# Altium integrated library Xilinx XC9500.IntLib: 208 symbols (part 1 of 16)
Pins are listed as number, name and electrical type; pins without a type are passive.

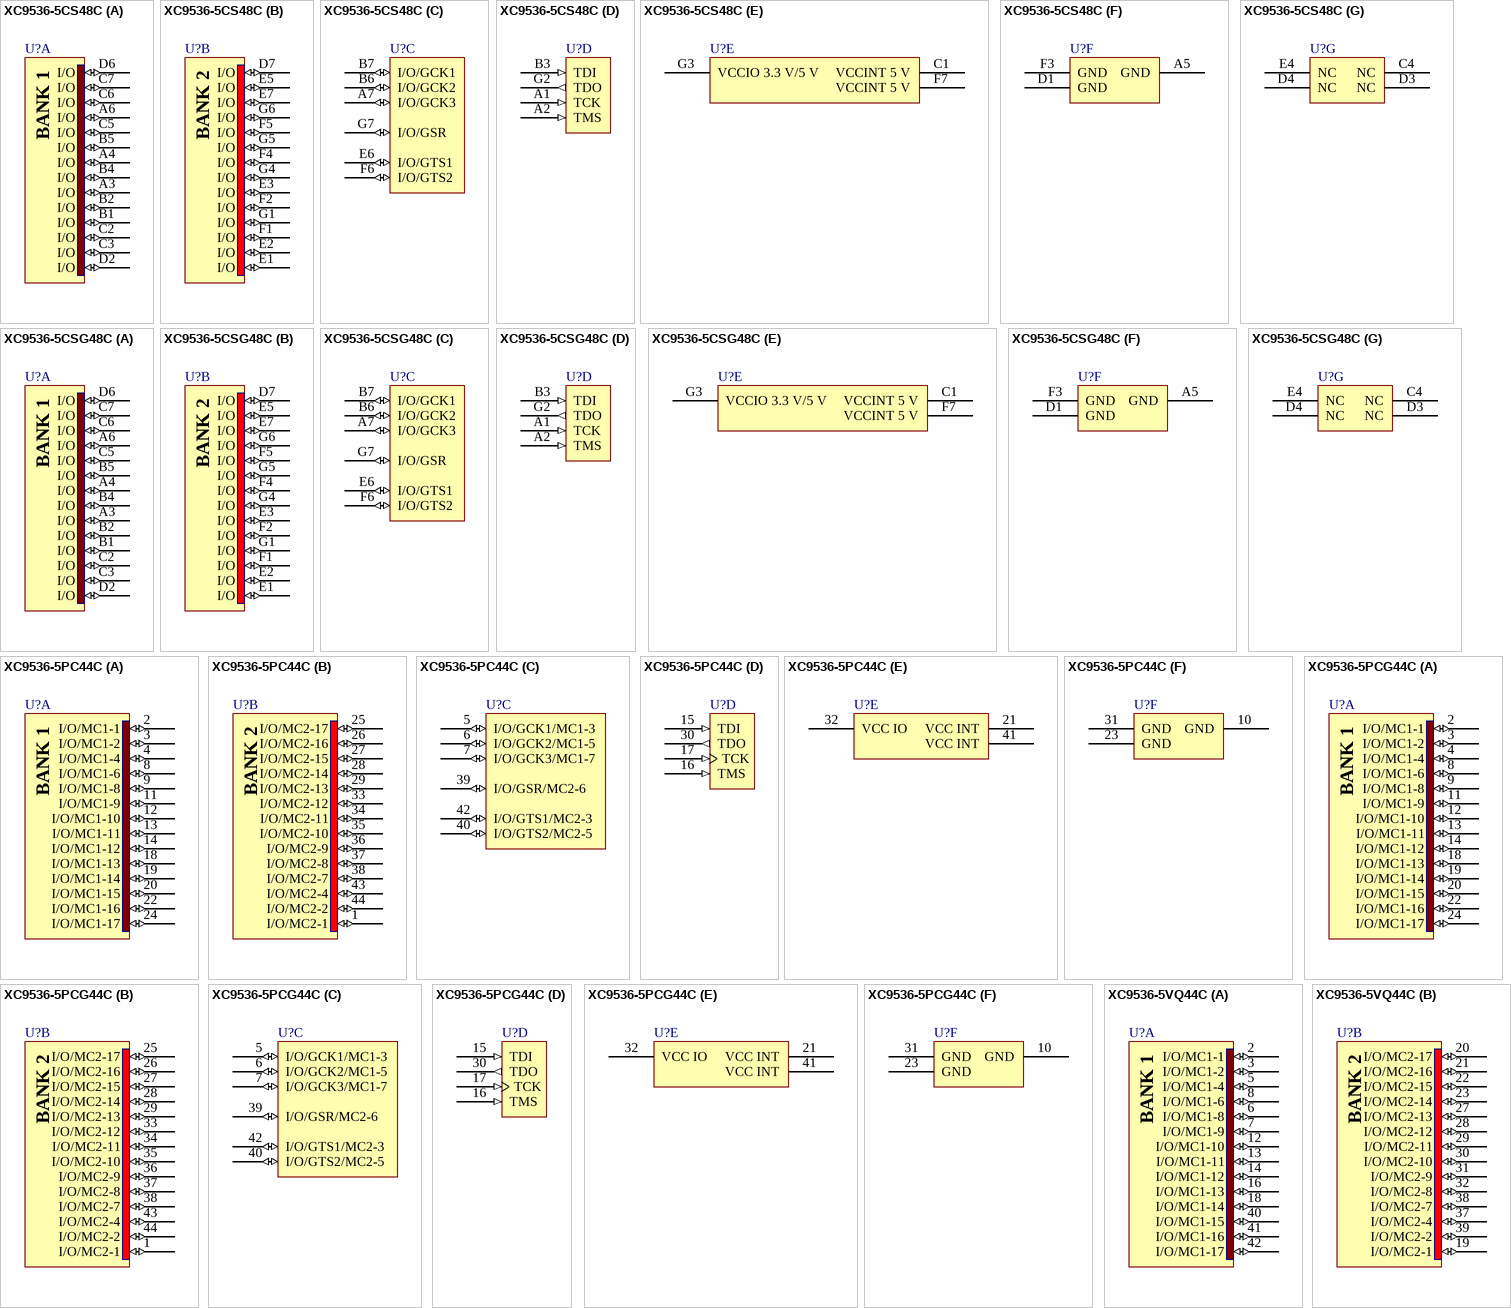
[diagram p0: symbols XC9536-5CS48C to XC9536-5VQ44C]

## XC9536-5CS48C
designator U?
XC9500 5V, 36 Macrocell CPLD, 34 User I/Os, 48-Ball CSBGA, Commercial Grade; Published: 17-Sep-2003; LatestRevisionDate: 18-Nov-2009; LatestRevisionNote: Updated to family datasheet version 5.5 Jun-2007.; DatasheetVersion: ver6.3, Apr-2006; PackageVersion: ver1.2.1, Apr-2005; PackageReference: CS48; Publisher: Altium Limited; PackageDescription: 48-Ball Chip Scale Ball Grid Array (CS48); Supplier 1: Digi-Key; Supplier Part Number 1: XC9536-5CS48C-ND; ComponentLink1Description: XC9536 Datasheet; ComponentLink1URL: http://www.xilinx.com/support/documentation/data_sheets/ds064.pdf; ComponentLink2Description: CS48 Package Drawing; ComponentLink2URL: http://www.xilinx.com/support/documentation/package_specs/cs48.pdf; ComponentLink3Description: XC9500 Documents; ComponentLink3URL: http://www.xilinx.com/support/documentation/xc9500.htm; ComponentLink4Description: Xilinx.com Home; ComponentLink4URL: http://www.xilinx.com
footprint CS48 (BGA, 48-Leads, Body 7x7mm, Pitch 0.8mm)
signal-integrity model XC9536_CS48 (XC9500)
part A pins: A3 I/O (io), A4 I/O (io), A6 I/O (io), B1 I/O (io), B2 I/O (io), B4 I/O (io), B5 I/O (io), C2 I/O (io), C3 I/O (io), C5 I/O (io), C6 I/O (io), C7 I/O (io), D2 I/O (io), D6 I/O (io)
part B pins: D7 I/O (io), E1 I/O (io), E2 I/O (io), E3 I/O (io), E5 I/O (io), E7 I/O (io), F1 I/O (io), F2 I/O (io), F4 I/O (io), F5 I/O (io), G1 I/O (io), G4 I/O (io), G5 I/O (io), G6 I/O (io)
part C pins: A7 I/O/GCK3 (io), B6 I/O/GCK2 (io), B7 I/O/GCK1 (io), E6 I/O/GTS1 (io), F6 I/O/GTS2 (io), G7 I/O/GSR (io)
part D pins: A1 TCK (in), A2 TMS (in), B3 TDI (in), G2 TDO (out)
part E pins: C1 VCCINT 5 V (power), F7 VCCINT 5 V (power), G3 VCCIO 3.3 V/5 V (power)
part F pins: A5 GND (power), D1 GND (power), F3 GND (power)
part G pins: C4 NC, D3 NC, D4 NC, E4 NC
part A text: BANK 1
part B text: BANK 2

## XC9536-5CSG48C
designator U?
XC9500 5V, 36 Macrocell CPLD, 34 User I/Os, 48-Ball CSBGA, Commercial Grade, Pb-Free; Published: 8-Sep-2006; LatestRevisionDate: 18-Nov-2009; LatestRevisionNote: Updated to family datasheet version 5.5 Jun-2007.; DatasheetVersion: ver6.3, Apr-2006; PackageVersion: ver1.2.1, Apr-2005; PackageReference: CSG48; Publisher: Altium Limited; PackageDescription: 48-Ball Chip Scale Ball Grid Array (CSG48) - Pb-Free; ComponentLink1Description: XC9536 Datasheet; ComponentLink1URL: http://www.xilinx.com/support/documentation/data_sheets/ds064.pdf; ComponentLink2Description: CSG48 Package Drawing; ComponentLink2URL: http://www.xilinx.com/support/documentation/package_specs/cs48.pdf; ComponentLink3Description: XC9500 Documents; ComponentLink3URL: http://www.xilinx.com/support/documentation/xc9500.htm; ComponentLink4Description: Xilinx.com Home; ComponentLink4URL: http://www.xilinx.com
footprint CSG48 (BGA, 48-Leads, Body 7x7mm, Pitch 0.8mm)
signal-integrity model XC9536_CSG48 (XC9500)
part A pins: A3 I/O (io), A4 I/O (io), A6 I/O (io), B1 I/O (io), B2 I/O (io), B4 I/O (io), B5 I/O (io), C2 I/O (io), C3 I/O (io), C5 I/O (io), C6 I/O (io), C7 I/O (io), D2 I/O (io), D6 I/O (io)
part B pins: D7 I/O (io), E1 I/O (io), E2 I/O (io), E3 I/O (io), E5 I/O (io), E7 I/O (io), F1 I/O (io), F2 I/O (io), F4 I/O (io), F5 I/O (io), G1 I/O (io), G4 I/O (io), G5 I/O (io), G6 I/O (io)
part C pins: A7 I/O/GCK3 (io), B6 I/O/GCK2 (io), B7 I/O/GCK1 (io), E6 I/O/GTS1 (io), F6 I/O/GTS2 (io), G7 I/O/GSR (io)
part D pins: A1 TCK (in), A2 TMS (in), B3 TDI (in), G2 TDO (out)
part E pins: C1 VCCINT 5 V (power), F7 VCCINT 5 V (power), G3 VCCIO 3.3 V/5 V (power)
part F pins: A5 GND (power), D1 GND (power), F3 GND (power)
part G pins: C4 NC, D3 NC, D4 NC, E4 NC
part A text: BANK 1
part B text: BANK 2

## XC9536-5PC44C
designator U?
XC9500 5V, 36 Macrocell CPLD, 34 User I/Os, 44-Pin PLCC, Commercial Grade; Published: 8-Jun-2000; LatestRevisionDate: 18-Nov-2009; LatestRevisionNote: Updated to family datasheet version 5.5 Jun-2007.; DatasheetVersion: ver6.3, Apr-2006; PackageVersion: ver1.2, Jun-2004; PackageReference: PC44; Publisher: Altium Limited; PackageDescription: 44-Pin Plastic Leaded Chip Carrier (PC44); Supplier 1: Digi-Key; Supplier Part Number 1: XC9536-5PC44C-ND; Supplier 2: Newark; Supplier Part Number 2: 50R4413; Code_JEDEC: MS-047; Code_IPC: PLCC-44; ComponentLink1Description: XC9536 Datasheet; ComponentLink1URL: http://www.xilinx.com/support/documentation/data_sheets/ds064.pdf; ComponentLink2Description: PC44 Package Drawing; ComponentLink2URL: http://www.xilinx.com/support/documentation/package_specs/pc44.pdf; ComponentLink3Description: XC9500 Documents; ComponentLink3URL: http://www.xilinx.com/support/documentation/xc9500.htm; ComponentLink4Description: Xilinx.com Home; ComponentLink4URL: http://www.xilinx.com
footprint PC44_N (Leaded Chip Carrier, 44-Leads, Body 16.6x16.6mm, Pitch 1.27mm, IPC Medium Density)
footprint PC44_L (Leaded Chip Carrier, 44-Leads, Body 16.6x16.6mm, Pitch 1.27mm, IPC High Density)
footprint PC44_M (Leaded Chip Carrier, 44-Leads, Body 16.6x16.6mm, Pitch 1.27mm, IPC Low Density)
signal-integrity model XC9536_PLCC44 (XC9500)
part A pins: 2 I/O/MC1-1 (io), 3 I/O/MC1-2 (io), 4 I/O/MC1-4 (io), 8 I/O/MC1-6 (io), 9 I/O/MC1-8 (io), 11 I/O/MC1-9 (io), 12 I/O/MC1-10 (io), 13 I/O/MC1-11 (io), 14 I/O/MC1-12 (io), 18 I/O/MC1-13 (io), 19 I/O/MC1-14 (io), 20 I/O/MC1-15 (io), 22 I/O/MC1-16 (io), 24 I/O/MC1-17 (io)
part B pins: 1 I/O/MC2-1 (io), 25 I/O/MC2-17 (io), 26 I/O/MC2-16 (io), 27 I/O/MC2-15 (io), 28 I/O/MC2-14 (io), 29 I/O/MC2-13 (io), 33 I/O/MC2-12 (io), 34 I/O/MC2-11 (io), 35 I/O/MC2-10 (io), 36 I/O/MC2-9 (io), 37 I/O/MC2-8 (io), 38 I/O/MC2-7 (io), 43 I/O/MC2-4 (io), 44 I/O/MC2-2 (io)
part C pins: 5 I/O/GCK1/MC1-3 (io), 6 I/O/GCK2/MC1-5 (io), 7 I/O/GCK3/MC1-7 (io), 39 I/O/GSR/MC2-6 (io), 40 I/O/GTS2/MC2-5 (io), 42 I/O/GTS1/MC2-3 (io)
part D pins: 15 TDI (in), 16 TMS (in), 17 TCK (in), 30 TDO (out)
part E pins: 21 VCC INT (power), 32 VCC IO (power), 41 VCC INT (power)
part F pins: 10 GND (power), 23 GND (power), 31 GND (power)
part A text: BANK 1
part B text: BANK 2

## XC9536-5PCG44C
designator U?
XC9500 5V, 36 Macrocell CPLD, 34 User I/Os, 44-Pin PLCC, Commercial Grade, Pb-Free; Published: 8-Sep-2006; LatestRevisionDate: 18-Nov-2009; LatestRevisionNote: Updated to family datasheet version 5.5 Jun-2007.; DatasheetVersion: ver6.3, Apr-2006; PackageVersion: ver1.2, Jun-2004; PackageReference: PCG44; Publisher: Altium Limited; PackageDescription: 44-Pin Plastic Leaded Chip Carrier (PCG44) - Pb-Free; Code_JEDEC: MS-047; Code_IPC: PLCC-44; ComponentLink1Description: XC9536 Datasheet; ComponentLink1URL: http://www.xilinx.com/support/documentation/data_sheets/ds064.pdf; ComponentLink2Description: PCG44 Package Drawing; ComponentLink2URL: http://www.xilinx.com/support/documentation/package_specs/pc44.pdf; ComponentLink3Description: XC9500 Documents; ComponentLink3URL: http://www.xilinx.com/support/documentation/xc9500.htm; ComponentLink4Description: Xilinx.com Home; ComponentLink4URL: http://www.xilinx.com
footprint PCG44_N (Leaded Chip Carrier, 44-Leads, Body 16.6x16.6mm, Pitch 1.27mm, IPC Medium Density)
footprint PCG44_L (Leaded Chip Carrier, 44-Leads, Body 16.6x16.6mm, Pitch 1.27mm, IPC High Density)
footprint PCG44_M (Leaded Chip Carrier, 44-Leads, Body 16.6x16.6mm, Pitch 1.27mm, IPC Low Density)
signal-integrity model XC9536_PCG44 (XC9500)
part A pins: 2 I/O/MC1-1 (io), 3 I/O/MC1-2 (io), 4 I/O/MC1-4 (io), 8 I/O/MC1-6 (io), 9 I/O/MC1-8 (io), 11 I/O/MC1-9 (io), 12 I/O/MC1-10 (io), 13 I/O/MC1-11 (io), 14 I/O/MC1-12 (io), 18 I/O/MC1-13 (io), 19 I/O/MC1-14 (io), 20 I/O/MC1-15 (io), 22 I/O/MC1-16 (io), 24 I/O/MC1-17 (io)
part B pins: 1 I/O/MC2-1 (io), 25 I/O/MC2-17 (io), 26 I/O/MC2-16 (io), 27 I/O/MC2-15 (io), 28 I/O/MC2-14 (io), 29 I/O/MC2-13 (io), 33 I/O/MC2-12 (io), 34 I/O/MC2-11 (io), 35 I/O/MC2-10 (io), 36 I/O/MC2-9 (io), 37 I/O/MC2-8 (io), 38 I/O/MC2-7 (io), 43 I/O/MC2-4 (io), 44 I/O/MC2-2 (io)
part C pins: 5 I/O/GCK1/MC1-3 (io), 6 I/O/GCK2/MC1-5 (io), 7 I/O/GCK3/MC1-7 (io), 39 I/O/GSR/MC2-6 (io), 40 I/O/GTS2/MC2-5 (io), 42 I/O/GTS1/MC2-3 (io)
part D pins: 15 TDI (in), 16 TMS (in), 17 TCK (in), 30 TDO (out)
part E pins: 21 VCC INT (power), 32 VCC IO (power), 41 VCC INT (power)
part F pins: 10 GND (power), 23 GND (power), 31 GND (power)
part A text: BANK 1
part B text: BANK 2

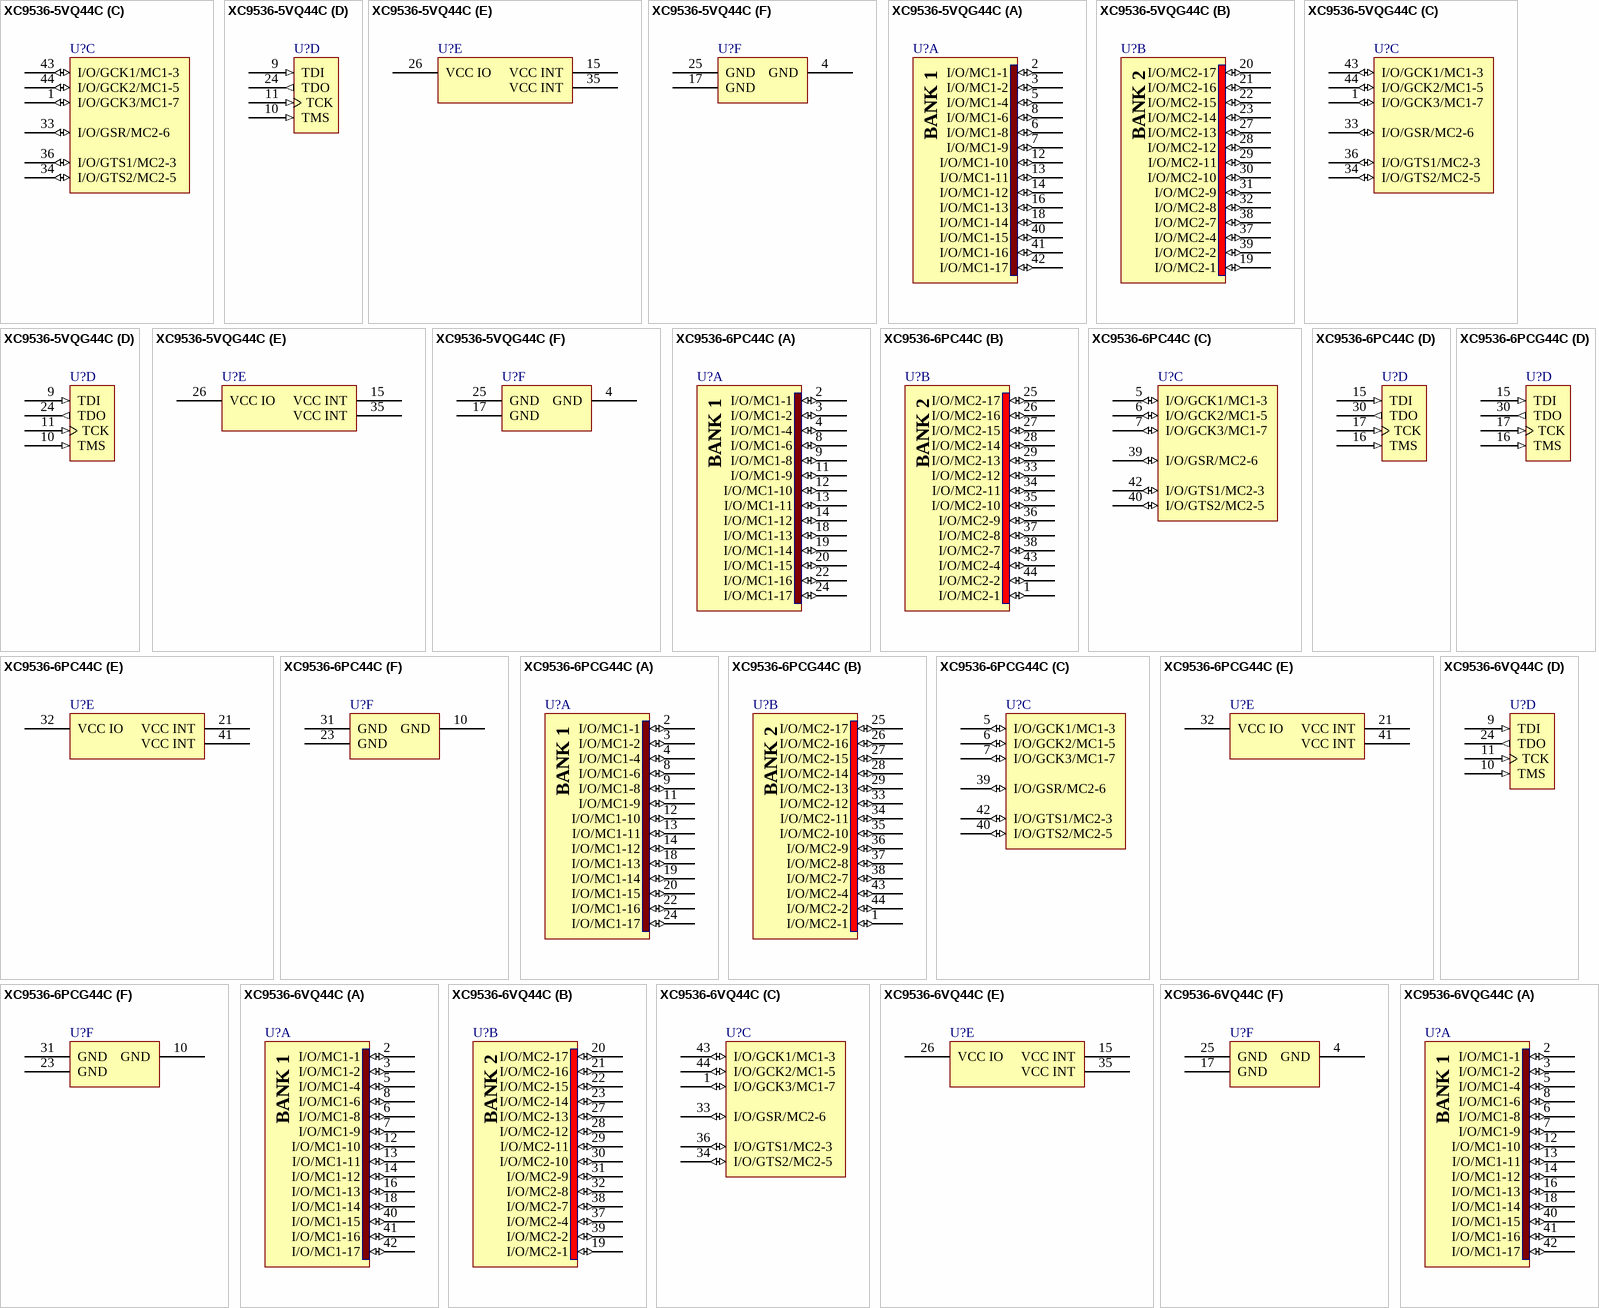
[diagram p1: symbols XC9536-5VQ44C to XC9536-6VQG44C]

## XC9536-5VQ44C
designator U?
XC9500 5V, 36 Macrocell CPLD, 34 User I/Os, 44-Pin VQFP, Commercial Grade; Published: 8-Jun-2000; LatestRevisionDate: 18-Nov-2009; LatestRevisionNote: Updated to family datasheet version 5.5 Jun-2007.; DatasheetVersion: ver6.3, Apr-2006; PackageVersion: ver1.2, Jun-2004; PackageReference: VQ44; Publisher: Altium Limited; PackageDescription: 44-Pin Very Thin Quad Flat Pack (VQ44); Supplier 1: Digi-Key; Supplier Part Number 1: 122-1254-ND; Code_JEDEC: MS-026-ACB; ComponentLink1Description: XC9536 Datasheet; ComponentLink1URL: http://www.xilinx.com/support/documentation/data_sheets/ds064.pdf; ComponentLink2Description: VQ44 Package Drawing; ComponentLink2URL: http://www.xilinx.com/support/documentation/package_specs/vq44.pdf; ComponentLink3Description: XC9500 Documents; ComponentLink3URL: http://www.xilinx.com/support/documentation/xc9500.htm; ComponentLink4Description: Xilinx.com Home; ComponentLink4URL: http://www.xilinx.com
footprint VQ44_N (Thin QFP, 44-Leads, Body 10x10mm, Pitch 0.8mm, IPC Medium Density)
footprint VQ44_L (Thin QFP, 44-Leads, Body 10x10mm, Pitch 0.8mm, IPC High Density)
footprint VQ44_M (Thin QFP, 44-Leads, Body 10x10mm, Pitch 0.8mm, IPC Low Density)
signal-integrity model XC9536_VQ44 (XC9500)
part A pins: 2 I/O/MC1-1 (io), 3 I/O/MC1-2 (io), 5 I/O/MC1-4 (io), 6 I/O/MC1-8 (io), 7 I/O/MC1-9 (io), 8 I/O/MC1-6 (io), 12 I/O/MC1-10 (io), 13 I/O/MC1-11 (io), 14 I/O/MC1-12 (io), 16 I/O/MC1-13 (io), 18 I/O/MC1-14 (io), 40 I/O/MC1-15 (io), 41 I/O/MC1-16 (io), 42 I/O/MC1-17 (io)
part B pins: 19 I/O/MC2-1 (io), 20 I/O/MC2-17 (io), 21 I/O/MC2-16 (io), 22 I/O/MC2-15 (io), 23 I/O/MC2-14 (io), 27 I/O/MC2-13 (io), 28 I/O/MC2-12 (io), 29 I/O/MC2-11 (io), 30 I/O/MC2-10 (io), 31 I/O/MC2-9 (io), 32 I/O/MC2-8 (io), 37 I/O/MC2-4 (io), 38 I/O/MC2-7 (io), 39 I/O/MC2-2 (io)
part C pins: 1 I/O/GCK3/MC1-7 (io), 33 I/O/GSR/MC2-6 (io), 34 I/O/GTS2/MC2-5 (io), 36 I/O/GTS1/MC2-3 (io), 43 I/O/GCK1/MC1-3 (io), 44 I/O/GCK2/MC1-5 (io)
part D pins: 9 TDI (in), 10 TMS (in), 11 TCK (in), 24 TDO (out)
part E pins: 15 VCC INT (power), 26 VCC IO (power), 35 VCC INT (power)
part F pins: 4 GND (power), 17 GND (power), 25 GND (power)
part A text: BANK 1
part B text: BANK 2

## XC9536-5VQG44C
designator U?
XC9500 5V, 36 Macrocell CPLD, 34 User I/Os, 44-Pin VQFP, Commercial Grade, Pb-Free; Published: 8-Sep-2006; LatestRevisionDate: 18-Nov-2009; LatestRevisionNote: Updated to family datasheet version 5.5 Jun-2007.; DatasheetVersion: ver6.3, Apr-2006; PackageVersion: ver1.2, Jun-2004; PackageReference: VQG44; Publisher: Altium Limited; PackageDescription: 44-Pin Very Thin Quad Flat Pack (VQG44) - Pb-Free; Supplier 1: Digi-Key; Supplier Part Number 1: XC9536-5VQG44C-ND; Code_JEDEC: MS-026-ACB; ComponentLink1Description: XC9536 Datasheet; ComponentLink1URL: http://www.xilinx.com/support/documentation/data_sheets/ds064.pdf; ComponentLink2Description: VQG44 Package Drawing; ComponentLink2URL: http://www.xilinx.com/support/documentation/package_specs/vq44.pdf; ComponentLink3Description: XC9500 Documents; ComponentLink3URL: http://www.xilinx.com/support/documentation/xc9500.htm; ComponentLink4Description: Xilinx.com Home; ComponentLink4URL: http://www.xilinx.com
footprint VQG44_N (Thin QFP, 44-Leads, Body 10x10mm, Pitch 0.8mm, IPC Medium Density)
footprint VQG44_L (Thin QFP, 44-Leads, Body 10x10mm, Pitch 0.8mm, IPC High Density)
footprint VQG44_M (Thin QFP, 44-Leads, Body 10x10mm, Pitch 0.8mm, IPC Low Density)
signal-integrity model XC9536_VQG44 (XC9500)
part A pins: 2 I/O/MC1-1 (io), 3 I/O/MC1-2 (io), 5 I/O/MC1-4 (io), 6 I/O/MC1-8 (io), 7 I/O/MC1-9 (io), 8 I/O/MC1-6 (io), 12 I/O/MC1-10 (io), 13 I/O/MC1-11 (io), 14 I/O/MC1-12 (io), 16 I/O/MC1-13 (io), 18 I/O/MC1-14 (io), 40 I/O/MC1-15 (io), 41 I/O/MC1-16 (io), 42 I/O/MC1-17 (io)
part B pins: 19 I/O/MC2-1 (io), 20 I/O/MC2-17 (io), 21 I/O/MC2-16 (io), 22 I/O/MC2-15 (io), 23 I/O/MC2-14 (io), 27 I/O/MC2-13 (io), 28 I/O/MC2-12 (io), 29 I/O/MC2-11 (io), 30 I/O/MC2-10 (io), 31 I/O/MC2-9 (io), 32 I/O/MC2-8 (io), 37 I/O/MC2-4 (io), 38 I/O/MC2-7 (io), 39 I/O/MC2-2 (io)
part C pins: 1 I/O/GCK3/MC1-7 (io), 33 I/O/GSR/MC2-6 (io), 34 I/O/GTS2/MC2-5 (io), 36 I/O/GTS1/MC2-3 (io), 43 I/O/GCK1/MC1-3 (io), 44 I/O/GCK2/MC1-5 (io)
part D pins: 9 TDI (in), 10 TMS (in), 11 TCK (in), 24 TDO (out)
part E pins: 15 VCC INT (power), 26 VCC IO (power), 35 VCC INT (power)
part F pins: 4 GND (power), 17 GND (power), 25 GND (power)
part A text: BANK 1
part B text: BANK 2

## XC9536-6PC44C
designator U?
XC9500 5V, 36 Macrocell CPLD, 34 User I/Os, 44-Pin PLCC, Commercial Grade; Published: 17-Sep-2003; LatestRevisionDate: 18-Nov-2009; LatestRevisionNote: Updated to family datasheet version 5.5 Jun-2007.; DatasheetVersion: ver6.3, Apr-2006; PackageVersion: ver1.2, Jun-2004; PackageReference: PC44; Publisher: Altium Limited; PackageDescription: 44-Pin Plastic Leaded Chip Carrier (PC44); Supplier 1: Digi-Key; Supplier Part Number 1: 122-1253-ND; Code_JEDEC: MS-047; Code_IPC: PLCC-44; ComponentLink1Description: XC9536 Datasheet; ComponentLink1URL: http://www.xilinx.com/support/documentation/data_sheets/ds064.pdf; ComponentLink2Description: PC44 Package Drawing; ComponentLink2URL: http://www.xilinx.com/support/documentation/package_specs/pc44.pdf; ComponentLink3Description: XC9500 Documents; ComponentLink3URL: http://www.xilinx.com/support/documentation/xc9500.htm; ComponentLink4Description: Xilinx.com Home; ComponentLink4URL: http://www.xilinx.com
footprint PC44_N (Leaded Chip Carrier, 44-Leads, Body 16.6x16.6mm, Pitch 1.27mm, IPC Medium Density)
footprint PC44_L (Leaded Chip Carrier, 44-Leads, Body 16.6x16.6mm, Pitch 1.27mm, IPC High Density)
footprint PC44_M (Leaded Chip Carrier, 44-Leads, Body 16.6x16.6mm, Pitch 1.27mm, IPC Low Density)
signal-integrity model XC9536_PLCC44 (XC9500)
part A pins: 2 I/O/MC1-1 (io), 3 I/O/MC1-2 (io), 4 I/O/MC1-4 (io), 8 I/O/MC1-6 (io), 9 I/O/MC1-8 (io), 11 I/O/MC1-9 (io), 12 I/O/MC1-10 (io), 13 I/O/MC1-11 (io), 14 I/O/MC1-12 (io), 18 I/O/MC1-13 (io), 19 I/O/MC1-14 (io), 20 I/O/MC1-15 (io), 22 I/O/MC1-16 (io), 24 I/O/MC1-17 (io)
part B pins: 1 I/O/MC2-1 (io), 25 I/O/MC2-17 (io), 26 I/O/MC2-16 (io), 27 I/O/MC2-15 (io), 28 I/O/MC2-14 (io), 29 I/O/MC2-13 (io), 33 I/O/MC2-12 (io), 34 I/O/MC2-11 (io), 35 I/O/MC2-10 (io), 36 I/O/MC2-9 (io), 37 I/O/MC2-8 (io), 38 I/O/MC2-7 (io), 43 I/O/MC2-4 (io), 44 I/O/MC2-2 (io)
part C pins: 5 I/O/GCK1/MC1-3 (io), 6 I/O/GCK2/MC1-5 (io), 7 I/O/GCK3/MC1-7 (io), 39 I/O/GSR/MC2-6 (io), 40 I/O/GTS2/MC2-5 (io), 42 I/O/GTS1/MC2-3 (io)
part D pins: 15 TDI (in), 16 TMS (in), 17 TCK (in), 30 TDO (out)
part E pins: 21 VCC INT (power), 32 VCC IO (power), 41 VCC INT (power)
part F pins: 10 GND (power), 23 GND (power), 31 GND (power)
part A text: BANK 1
part B text: BANK 2

## XC9536-6PCG44C
designator U?
XC9500 5V, 36 Macrocell CPLD, 34 User I/Os, 44-Pin PLCC, Commercial Grade, Pb-Free; Published: 8-Sep-2006; LatestRevisionDate: 18-Nov-2009; LatestRevisionNote: Updated to family datasheet version 5.5 Jun-2007.; DatasheetVersion: ver6.3, Apr-2006; PackageVersion: ver1.2, Jun-2004; PackageReference: PCG44; Publisher: Altium Limited; PackageDescription: 44-Pin Plastic Leaded Chip Carrier (PCG44) - Pb-Free; Code_JEDEC: MS-047; Code_IPC: PLCC-44; ComponentLink1Description: XC9536 Datasheet; ComponentLink1URL: http://www.xilinx.com/support/documentation/data_sheets/ds064.pdf; ComponentLink2Description: PCG44 Package Drawing; ComponentLink2URL: http://www.xilinx.com/support/documentation/package_specs/pc44.pdf; ComponentLink3Description: XC9500 Documents; ComponentLink3URL: http://www.xilinx.com/support/documentation/xc9500.htm; ComponentLink4Description: Xilinx.com Home; ComponentLink4URL: http://www.xilinx.com
footprint PCG44_N (Leaded Chip Carrier, 44-Leads, Body 16.6x16.6mm, Pitch 1.27mm, IPC Medium Density)
footprint PCG44_L (Leaded Chip Carrier, 44-Leads, Body 16.6x16.6mm, Pitch 1.27mm, IPC High Density)
footprint PCG44_M (Leaded Chip Carrier, 44-Leads, Body 16.6x16.6mm, Pitch 1.27mm, IPC Low Density)
signal-integrity model XC9536_PCG44 (XC9500)
part A pins: 2 I/O/MC1-1 (io), 3 I/O/MC1-2 (io), 4 I/O/MC1-4 (io), 8 I/O/MC1-6 (io), 9 I/O/MC1-8 (io), 11 I/O/MC1-9 (io), 12 I/O/MC1-10 (io), 13 I/O/MC1-11 (io), 14 I/O/MC1-12 (io), 18 I/O/MC1-13 (io), 19 I/O/MC1-14 (io), 20 I/O/MC1-15 (io), 22 I/O/MC1-16 (io), 24 I/O/MC1-17 (io)
part B pins: 1 I/O/MC2-1 (io), 25 I/O/MC2-17 (io), 26 I/O/MC2-16 (io), 27 I/O/MC2-15 (io), 28 I/O/MC2-14 (io), 29 I/O/MC2-13 (io), 33 I/O/MC2-12 (io), 34 I/O/MC2-11 (io), 35 I/O/MC2-10 (io), 36 I/O/MC2-9 (io), 37 I/O/MC2-8 (io), 38 I/O/MC2-7 (io), 43 I/O/MC2-4 (io), 44 I/O/MC2-2 (io)
part C pins: 5 I/O/GCK1/MC1-3 (io), 6 I/O/GCK2/MC1-5 (io), 7 I/O/GCK3/MC1-7 (io), 39 I/O/GSR/MC2-6 (io), 40 I/O/GTS2/MC2-5 (io), 42 I/O/GTS1/MC2-3 (io)
part D pins: 15 TDI (in), 16 TMS (in), 17 TCK (in), 30 TDO (out)
part E pins: 21 VCC INT (power), 32 VCC IO (power), 41 VCC INT (power)
part F pins: 10 GND (power), 23 GND (power), 31 GND (power)
part A text: BANK 1
part B text: BANK 2

## XC9536-6VQ44C
designator U?
XC9500 5V, 36 Macrocell CPLD, 34 User I/Os, 44-Pin VQFP, Commercial Grade; Published: 17-Sep-2003; LatestRevisionDate: 18-Nov-2009; LatestRevisionNote: Updated to family datasheet version 5.5 Jun-2007.; DatasheetVersion: ver6.3, Apr-2006; PackageVersion: ver1.2, Jun-2004; PackageReference: VQ44; Publisher: Altium Limited; PackageDescription: 44-Pin Very Thin Quad Flat Pack (VQ44); Supplier 1: Digi-Key; Supplier Part Number 1: XC9536-6VQ44C-ND; Code_JEDEC: MS-026-ACB; ComponentLink1Description: XC9536 Datasheet; ComponentLink1URL: http://www.xilinx.com/support/documentation/data_sheets/ds064.pdf; ComponentLink2Description: VQ44 Package Drawing; ComponentLink2URL: http://www.xilinx.com/support/documentation/package_specs/vq44.pdf; ComponentLink3Description: XC9500 Documents; ComponentLink3URL: http://www.xilinx.com/support/documentation/xc9500.htm; ComponentLink4Description: Xilinx.com Home; ComponentLink4URL: http://www.xilinx.com
footprint VQ44_N (Thin QFP, 44-Leads, Body 10x10mm, Pitch 0.8mm, IPC Medium Density)
footprint VQ44_L (Thin QFP, 44-Leads, Body 10x10mm, Pitch 0.8mm, IPC High Density)
footprint VQ44_M (Thin QFP, 44-Leads, Body 10x10mm, Pitch 0.8mm, IPC Low Density)
signal-integrity model XC9536_VQ44 (XC9500)
part A pins: 2 I/O/MC1-1 (io), 3 I/O/MC1-2 (io), 5 I/O/MC1-4 (io), 6 I/O/MC1-8 (io), 7 I/O/MC1-9 (io), 8 I/O/MC1-6 (io), 12 I/O/MC1-10 (io), 13 I/O/MC1-11 (io), 14 I/O/MC1-12 (io), 16 I/O/MC1-13 (io), 18 I/O/MC1-14 (io), 40 I/O/MC1-15 (io), 41 I/O/MC1-16 (io), 42 I/O/MC1-17 (io)
part B pins: 19 I/O/MC2-1 (io), 20 I/O/MC2-17 (io), 21 I/O/MC2-16 (io), 22 I/O/MC2-15 (io), 23 I/O/MC2-14 (io), 27 I/O/MC2-13 (io), 28 I/O/MC2-12 (io), 29 I/O/MC2-11 (io), 30 I/O/MC2-10 (io), 31 I/O/MC2-9 (io), 32 I/O/MC2-8 (io), 37 I/O/MC2-4 (io), 38 I/O/MC2-7 (io), 39 I/O/MC2-2 (io)
part C pins: 1 I/O/GCK3/MC1-7 (io), 33 I/O/GSR/MC2-6 (io), 34 I/O/GTS2/MC2-5 (io), 36 I/O/GTS1/MC2-3 (io), 43 I/O/GCK1/MC1-3 (io), 44 I/O/GCK2/MC1-5 (io)
part D pins: 9 TDI (in), 10 TMS (in), 11 TCK (in), 24 TDO (out)
part E pins: 15 VCC INT (power), 26 VCC IO (power), 35 VCC INT (power)
part F pins: 4 GND (power), 17 GND (power), 25 GND (power)
part A text: BANK 1
part B text: BANK 2

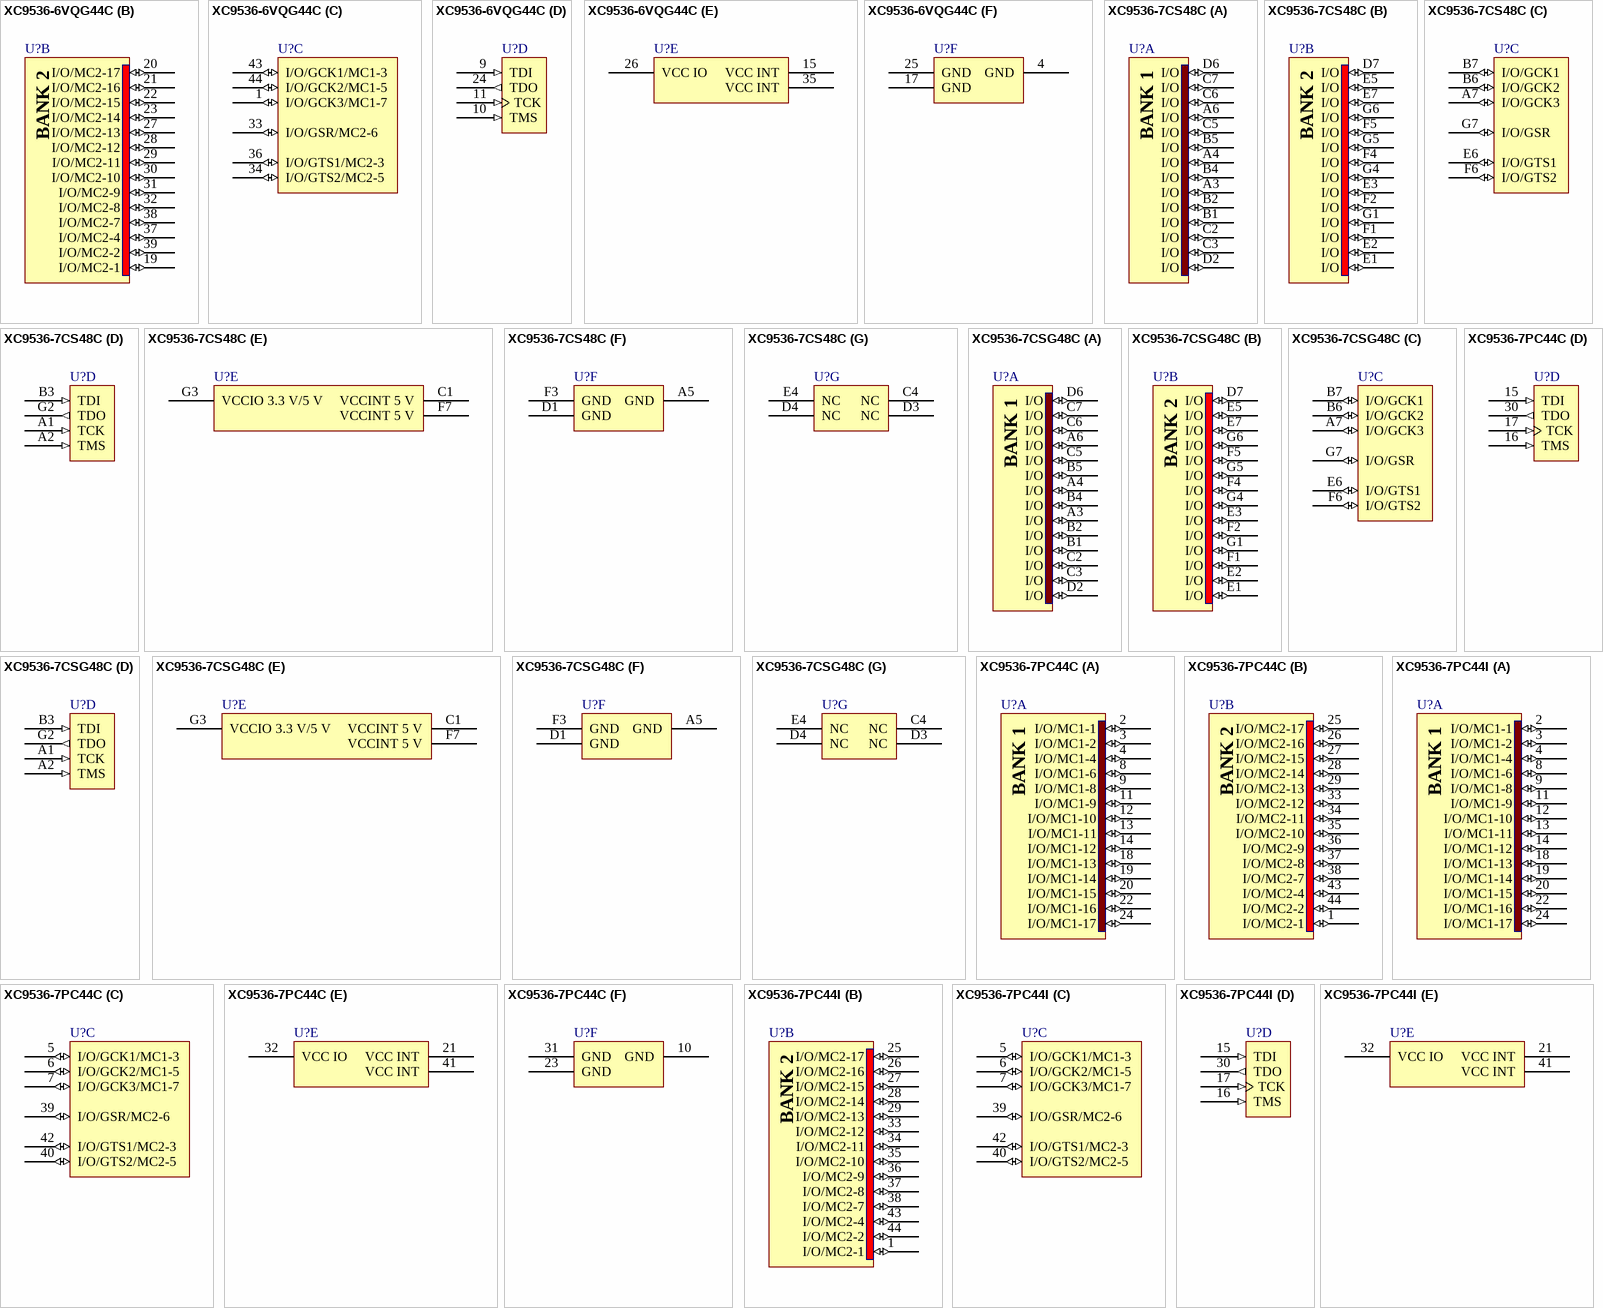
[diagram p2: symbols XC9536-6VQG44C to XC9536-7PC44I]

## XC9536-6VQG44C
designator U?
XC9500 5V, 36 Macrocell CPLD, 34 User I/Os, 44-Pin VQFP, Commercial Grade, Pb-Free; Published: 8-Sep-2006; LatestRevisionDate: 18-Nov-2009; LatestRevisionNote: Updated to family datasheet version 5.5 Jun-2007.; DatasheetVersion: ver6.3, Apr-2006; PackageVersion: ver1.2, Jun-2004; PackageReference: VQG44; Publisher: Altium Limited; PackageDescription: 44-Pin Very Thin Quad Flat Pack (VQG44) - Pb-Free; Code_JEDEC: MS-026-ACB; ComponentLink1Description: XC9536 Datasheet; ComponentLink1URL: http://www.xilinx.com/support/documentation/data_sheets/ds064.pdf; ComponentLink2Description: VQG44 Package Drawing; ComponentLink2URL: http://www.xilinx.com/support/documentation/package_specs/vq44.pdf; ComponentLink3Description: XC9500 Documents; ComponentLink3URL: http://www.xilinx.com/support/documentation/xc9500.htm; ComponentLink4Description: Xilinx.com Home; ComponentLink4URL: http://www.xilinx.com
footprint VQG44_N (Thin QFP, 44-Leads, Body 10x10mm, Pitch 0.8mm, IPC Medium Density)
footprint VQG44_L (Thin QFP, 44-Leads, Body 10x10mm, Pitch 0.8mm, IPC High Density)
footprint VQG44_M (Thin QFP, 44-Leads, Body 10x10mm, Pitch 0.8mm, IPC Low Density)
signal-integrity model XC9536_VQG44 (XC9500)
part A pins: 2 I/O/MC1-1 (io), 3 I/O/MC1-2 (io), 5 I/O/MC1-4 (io), 6 I/O/MC1-8 (io), 7 I/O/MC1-9 (io), 8 I/O/MC1-6 (io), 12 I/O/MC1-10 (io), 13 I/O/MC1-11 (io), 14 I/O/MC1-12 (io), 16 I/O/MC1-13 (io), 18 I/O/MC1-14 (io), 40 I/O/MC1-15 (io), 41 I/O/MC1-16 (io), 42 I/O/MC1-17 (io)
part B pins: 19 I/O/MC2-1 (io), 20 I/O/MC2-17 (io), 21 I/O/MC2-16 (io), 22 I/O/MC2-15 (io), 23 I/O/MC2-14 (io), 27 I/O/MC2-13 (io), 28 I/O/MC2-12 (io), 29 I/O/MC2-11 (io), 30 I/O/MC2-10 (io), 31 I/O/MC2-9 (io), 32 I/O/MC2-8 (io), 37 I/O/MC2-4 (io), 38 I/O/MC2-7 (io), 39 I/O/MC2-2 (io)
part C pins: 1 I/O/GCK3/MC1-7 (io), 33 I/O/GSR/MC2-6 (io), 34 I/O/GTS2/MC2-5 (io), 36 I/O/GTS1/MC2-3 (io), 43 I/O/GCK1/MC1-3 (io), 44 I/O/GCK2/MC1-5 (io)
part D pins: 9 TDI (in), 10 TMS (in), 11 TCK (in), 24 TDO (out)
part E pins: 15 VCC INT (power), 26 VCC IO (power), 35 VCC INT (power)
part F pins: 4 GND (power), 17 GND (power), 25 GND (power)
part A text: BANK 1
part B text: BANK 2

## XC9536-7CS48C
designator U?
XC9500 5V, 36 Macrocell CPLD, 34 User I/Os, 48-Ball CSBGA, Commercial Grade; Published: 17-Sep-2003; LatestRevisionDate: 18-Nov-2009; LatestRevisionNote: Updated to family datasheet version 5.5 Jun-2007.; DatasheetVersion: ver6.3, Apr-2006; PackageVersion: ver1.2.1, Apr-2005; PackageReference: CS48; Publisher: Altium Limited; PackageDescription: 48-Ball Chip Scale Ball Grid Array (CS48); Supplier 1: Digi-Key; Supplier Part Number 1: XC9536-7CS48C-ND; ComponentLink1Description: XC9536 Datasheet; ComponentLink1URL: http://www.xilinx.com/support/documentation/data_sheets/ds064.pdf; ComponentLink2Description: CS48 Package Drawing; ComponentLink2URL: http://www.xilinx.com/support/documentation/package_specs/cs48.pdf; ComponentLink3Description: XC9500 Documents; ComponentLink3URL: http://www.xilinx.com/support/documentation/xc9500.htm; ComponentLink4Description: Xilinx.com Home; ComponentLink4URL: http://www.xilinx.com
footprint CS48 (BGA, 48-Leads, Body 7x7mm, Pitch 0.8mm)
signal-integrity model XC9536_CS48 (XC9500)
part A pins: A3 I/O (io), A4 I/O (io), A6 I/O (io), B1 I/O (io), B2 I/O (io), B4 I/O (io), B5 I/O (io), C2 I/O (io), C3 I/O (io), C5 I/O (io), C6 I/O (io), C7 I/O (io), D2 I/O (io), D6 I/O (io)
part B pins: D7 I/O (io), E1 I/O (io), E2 I/O (io), E3 I/O (io), E5 I/O (io), E7 I/O (io), F1 I/O (io), F2 I/O (io), F4 I/O (io), F5 I/O (io), G1 I/O (io), G4 I/O (io), G5 I/O (io), G6 I/O (io)
part C pins: A7 I/O/GCK3 (io), B6 I/O/GCK2 (io), B7 I/O/GCK1 (io), E6 I/O/GTS1 (io), F6 I/O/GTS2 (io), G7 I/O/GSR (io)
part D pins: A1 TCK (in), A2 TMS (in), B3 TDI (in), G2 TDO (out)
part E pins: C1 VCCINT 5 V (power), F7 VCCINT 5 V (power), G3 VCCIO 3.3 V/5 V (power)
part F pins: A5 GND (power), D1 GND (power), F3 GND (power)
part G pins: C4 NC, D3 NC, D4 NC, E4 NC
part A text: BANK 1
part B text: BANK 2

## XC9536-7CSG48C
designator U?
XC9500 5V, 36 Macrocell CPLD, 34 User I/Os, 48-Ball CSBGA, Commercial Grade, Pb-Free; Published: 8-Sep-2006; LatestRevisionDate: 18-Nov-2009; LatestRevisionNote: Updated to family datasheet version 5.5 Jun-2007.; DatasheetVersion: ver6.3, Apr-2006; PackageVersion: ver1.2.1, Apr-2005; PackageReference: CSG48; Publisher: Altium Limited; PackageDescription: 48-Ball Chip Scale Ball Grid Array (CSG48) - Pb-Free; ComponentLink1Description: XC9536 Datasheet; ComponentLink1URL: http://www.xilinx.com/support/documentation/data_sheets/ds064.pdf; ComponentLink2Description: CSG48 Package Drawing; ComponentLink2URL: http://www.xilinx.com/support/documentation/package_specs/cs48.pdf; ComponentLink3Description: XC9500 Documents; ComponentLink3URL: http://www.xilinx.com/support/documentation/xc9500.htm; ComponentLink4Description: Xilinx.com Home; ComponentLink4URL: http://www.xilinx.com
footprint CSG48 (BGA, 48-Leads, Body 7x7mm, Pitch 0.8mm)
signal-integrity model XC9536_CSG48 (XC9500)
part A pins: A3 I/O (io), A4 I/O (io), A6 I/O (io), B1 I/O (io), B2 I/O (io), B4 I/O (io), B5 I/O (io), C2 I/O (io), C3 I/O (io), C5 I/O (io), C6 I/O (io), C7 I/O (io), D2 I/O (io), D6 I/O (io)
part B pins: D7 I/O (io), E1 I/O (io), E2 I/O (io), E3 I/O (io), E5 I/O (io), E7 I/O (io), F1 I/O (io), F2 I/O (io), F4 I/O (io), F5 I/O (io), G1 I/O (io), G4 I/O (io), G5 I/O (io), G6 I/O (io)
part C pins: A7 I/O/GCK3 (io), B6 I/O/GCK2 (io), B7 I/O/GCK1 (io), E6 I/O/GTS1 (io), F6 I/O/GTS2 (io), G7 I/O/GSR (io)
part D pins: A1 TCK (in), A2 TMS (in), B3 TDI (in), G2 TDO (out)
part E pins: C1 VCCINT 5 V (power), F7 VCCINT 5 V (power), G3 VCCIO 3.3 V/5 V (power)
part F pins: A5 GND (power), D1 GND (power), F3 GND (power)
part G pins: C4 NC, D3 NC, D4 NC, E4 NC
part A text: BANK 1
part B text: BANK 2

## XC9536-7PC44C
designator U?
XC9500 5V, 36 Macrocell CPLD, 34 User I/Os, 44-Pin PLCC, Commercial Grade; Published: 8-Jun-2000; LatestRevisionDate: 18-Nov-2009; LatestRevisionNote: Updated to family datasheet version 5.5 Jun-2007.; DatasheetVersion: ver6.3, Apr-2006; PackageVersion: ver1.2, Jun-2004; PackageReference: PC44; Publisher: Altium Limited; PackageDescription: 44-Pin Plastic Leaded Chip Carrier (PC44); Supplier 1: Digi-Key; Supplier Part Number 1: 122-1169-ND; Code_JEDEC: MS-047; Code_IPC: PLCC-44; ComponentLink1Description: XC9536 Datasheet; ComponentLink1URL: http://www.xilinx.com/support/documentation/data_sheets/ds064.pdf; ComponentLink2Description: PC44 Package Drawing; ComponentLink2URL: http://www.xilinx.com/support/documentation/package_specs/pc44.pdf; ComponentLink3Description: XC9500 Documents; ComponentLink3URL: http://www.xilinx.com/support/documentation/xc9500.htm; ComponentLink4Description: Xilinx.com Home; ComponentLink4URL: http://www.xilinx.com
footprint PC44_N (Leaded Chip Carrier, 44-Leads, Body 16.6x16.6mm, Pitch 1.27mm, IPC Medium Density)
footprint PC44_L (Leaded Chip Carrier, 44-Leads, Body 16.6x16.6mm, Pitch 1.27mm, IPC High Density)
footprint PC44_M (Leaded Chip Carrier, 44-Leads, Body 16.6x16.6mm, Pitch 1.27mm, IPC Low Density)
signal-integrity model XC9536_PLCC44 (XC9500)
part A pins: 2 I/O/MC1-1 (io), 3 I/O/MC1-2 (io), 4 I/O/MC1-4 (io), 8 I/O/MC1-6 (io), 9 I/O/MC1-8 (io), 11 I/O/MC1-9 (io), 12 I/O/MC1-10 (io), 13 I/O/MC1-11 (io), 14 I/O/MC1-12 (io), 18 I/O/MC1-13 (io), 19 I/O/MC1-14 (io), 20 I/O/MC1-15 (io), 22 I/O/MC1-16 (io), 24 I/O/MC1-17 (io)
part B pins: 1 I/O/MC2-1 (io), 25 I/O/MC2-17 (io), 26 I/O/MC2-16 (io), 27 I/O/MC2-15 (io), 28 I/O/MC2-14 (io), 29 I/O/MC2-13 (io), 33 I/O/MC2-12 (io), 34 I/O/MC2-11 (io), 35 I/O/MC2-10 (io), 36 I/O/MC2-9 (io), 37 I/O/MC2-8 (io), 38 I/O/MC2-7 (io), 43 I/O/MC2-4 (io), 44 I/O/MC2-2 (io)
part C pins: 5 I/O/GCK1/MC1-3 (io), 6 I/O/GCK2/MC1-5 (io), 7 I/O/GCK3/MC1-7 (io), 39 I/O/GSR/MC2-6 (io), 40 I/O/GTS2/MC2-5 (io), 42 I/O/GTS1/MC2-3 (io)
part D pins: 15 TDI (in), 16 TMS (in), 17 TCK (in), 30 TDO (out)
part E pins: 21 VCC INT (power), 32 VCC IO (power), 41 VCC INT (power)
part F pins: 10 GND (power), 23 GND (power), 31 GND (power)
part A text: BANK 1
part B text: BANK 2

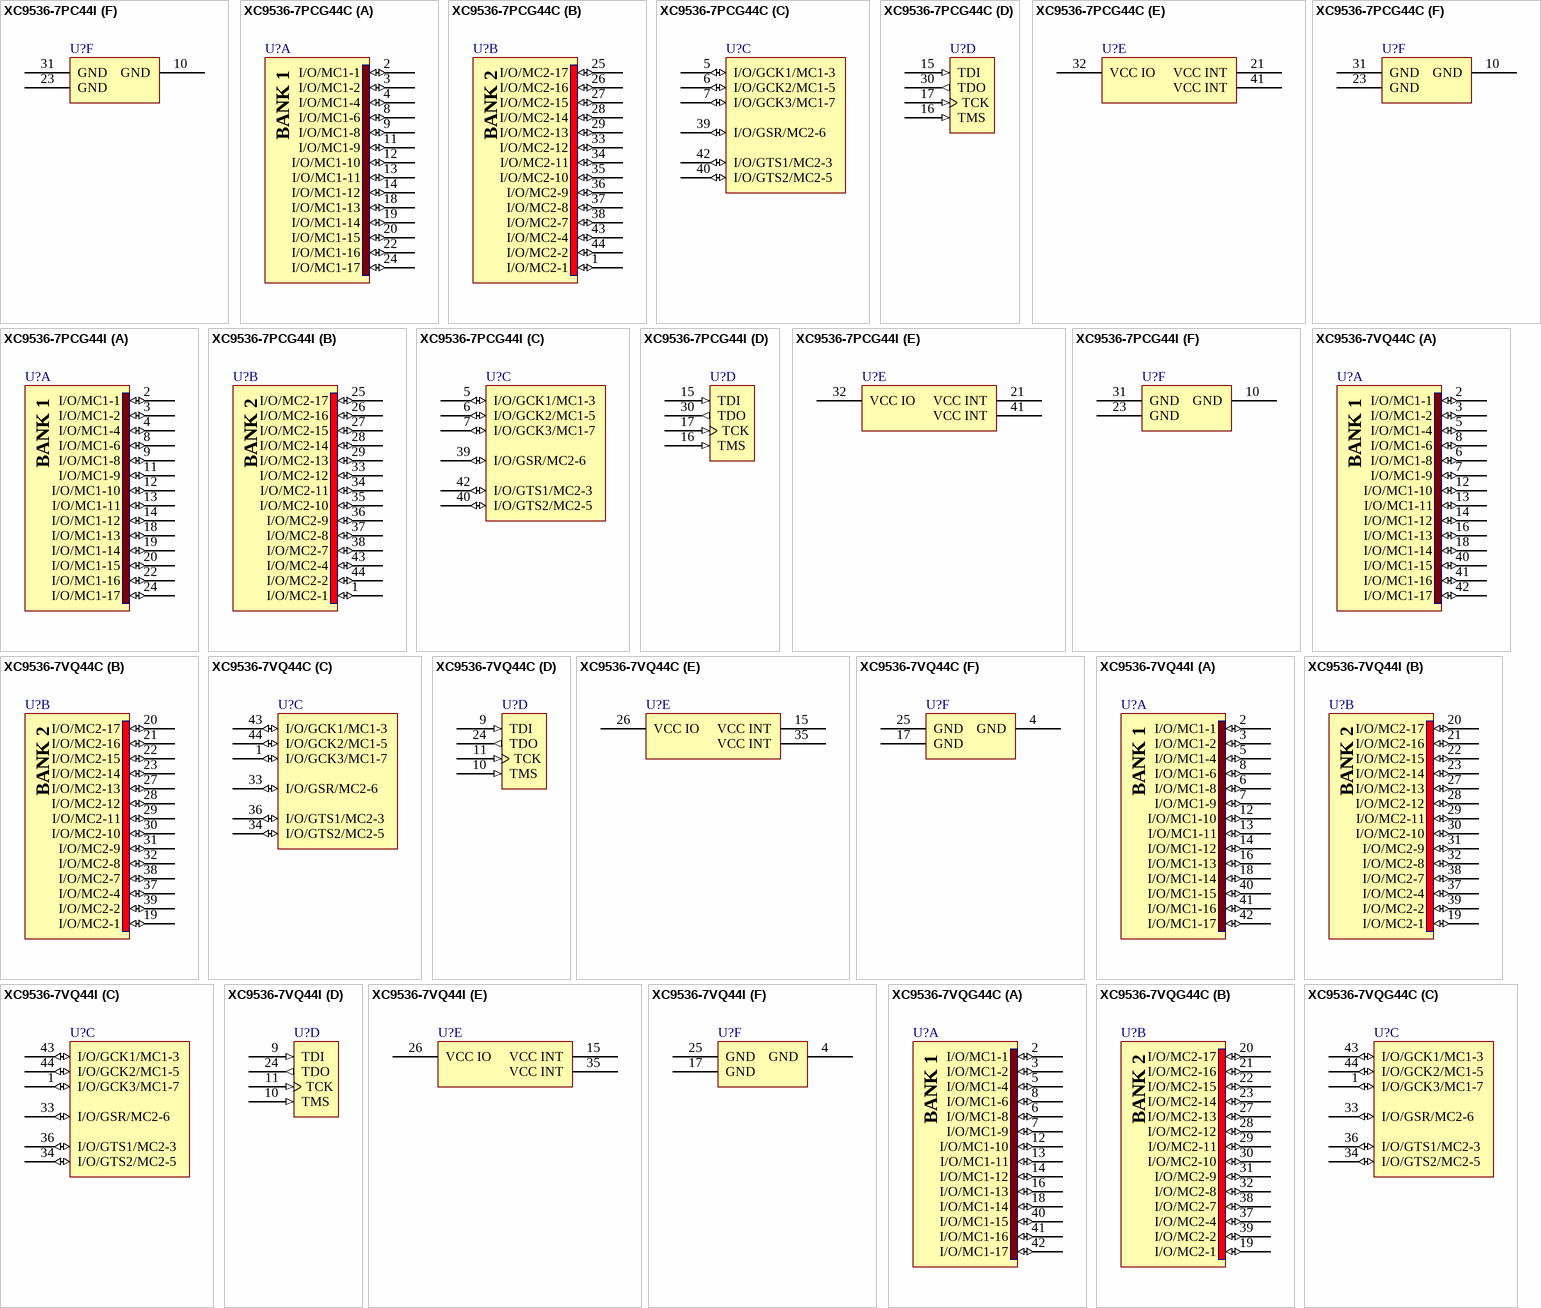
[diagram p3: symbols XC9536-7PC44I to XC9536-7VQG44C]

## XC9536-7PC44I
designator U?
XC9500 5V, 36 Macrocell CPLD, 34 User I/Os, 44-Pin PLCC, Industrial Grade; Published: 17-Sep-2003; LatestRevisionDate: 18-Nov-2009; LatestRevisionNote: Updated to family datasheet version 5.5 Jun-2007.; DatasheetVersion: ver6.3, Apr-2006; PackageVersion: ver1.2, Jun-2004; PackageReference: PC44; Publisher: Altium Limited; PackageDescription: 44-Pin Plastic Leaded Chip Carrier (PC44); Supplier 1: Digi-Key; Supplier Part Number 1: XC9536-7PC44I-ND; Code_JEDEC: MS-047; Code_IPC: PLCC-44; ComponentLink1Description: XC9536 Datasheet; ComponentLink1URL: http://www.xilinx.com/support/documentation/data_sheets/ds064.pdf; ComponentLink2Description: PC44 Package Drawing; ComponentLink2URL: http://www.xilinx.com/support/documentation/package_specs/pc44.pdf; ComponentLink3Description: XC9500 Documents; ComponentLink3URL: http://www.xilinx.com/support/documentation/xc9500.htm; ComponentLink4Description: Xilinx.com Home; ComponentLink4URL: http://www.xilinx.com
footprint PC44_N (Leaded Chip Carrier, 44-Leads, Body 16.6x16.6mm, Pitch 1.27mm, IPC Medium Density)
footprint PC44_L (Leaded Chip Carrier, 44-Leads, Body 16.6x16.6mm, Pitch 1.27mm, IPC High Density)
footprint PC44_M (Leaded Chip Carrier, 44-Leads, Body 16.6x16.6mm, Pitch 1.27mm, IPC Low Density)
signal-integrity model XC9536_PLCC44 (XC9500)
part A pins: 2 I/O/MC1-1 (io), 3 I/O/MC1-2 (io), 4 I/O/MC1-4 (io), 8 I/O/MC1-6 (io), 9 I/O/MC1-8 (io), 11 I/O/MC1-9 (io), 12 I/O/MC1-10 (io), 13 I/O/MC1-11 (io), 14 I/O/MC1-12 (io), 18 I/O/MC1-13 (io), 19 I/O/MC1-14 (io), 20 I/O/MC1-15 (io), 22 I/O/MC1-16 (io), 24 I/O/MC1-17 (io)
part B pins: 1 I/O/MC2-1 (io), 25 I/O/MC2-17 (io), 26 I/O/MC2-16 (io), 27 I/O/MC2-15 (io), 28 I/O/MC2-14 (io), 29 I/O/MC2-13 (io), 33 I/O/MC2-12 (io), 34 I/O/MC2-11 (io), 35 I/O/MC2-10 (io), 36 I/O/MC2-9 (io), 37 I/O/MC2-8 (io), 38 I/O/MC2-7 (io), 43 I/O/MC2-4 (io), 44 I/O/MC2-2 (io)
part C pins: 5 I/O/GCK1/MC1-3 (io), 6 I/O/GCK2/MC1-5 (io), 7 I/O/GCK3/MC1-7 (io), 39 I/O/GSR/MC2-6 (io), 40 I/O/GTS2/MC2-5 (io), 42 I/O/GTS1/MC2-3 (io)
part D pins: 15 TDI (in), 16 TMS (in), 17 TCK (in), 30 TDO (out)
part E pins: 21 VCC INT (power), 32 VCC IO (power), 41 VCC INT (power)
part F pins: 10 GND (power), 23 GND (power), 31 GND (power)
part A text: BANK 1
part B text: BANK 2

## XC9536-7PCG44C
designator U?
XC9500 5V, 36 Macrocell CPLD, 34 User I/Os, 44-Pin PLCC, Commercial Grade, Pb-Free; Published: 8-Sep-2006; LatestRevisionDate: 18-Nov-2009; LatestRevisionNote: Updated to family datasheet version 5.5 Jun-2007.; DatasheetVersion: ver6.3, Apr-2006; PackageVersion: ver1.2, Jun-2004; PackageReference: PCG44; Publisher: Altium Limited; PackageDescription: 44-Pin Plastic Leaded Chip Carrier (PCG44) - Pb-Free; Code_JEDEC: MS-047; Code_IPC: PLCC-44; ComponentLink1Description: XC9536 Datasheet; ComponentLink1URL: http://www.xilinx.com/support/documentation/data_sheets/ds064.pdf; ComponentLink2Description: PCG44 Package Drawing; ComponentLink2URL: http://www.xilinx.com/support/documentation/package_specs/pc44.pdf; ComponentLink3Description: XC9500 Documents; ComponentLink3URL: http://www.xilinx.com/support/documentation/xc9500.htm; ComponentLink4Description: Xilinx.com Home; ComponentLink4URL: http://www.xilinx.com
footprint PCG44_N (Leaded Chip Carrier, 44-Leads, Body 16.6x16.6mm, Pitch 1.27mm, IPC Medium Density)
footprint PCG44_L (Leaded Chip Carrier, 44-Leads, Body 16.6x16.6mm, Pitch 1.27mm, IPC High Density)
footprint PCG44_M (Leaded Chip Carrier, 44-Leads, Body 16.6x16.6mm, Pitch 1.27mm, IPC Low Density)
signal-integrity model XC9536_PCG44 (XC9500)
part A pins: 2 I/O/MC1-1 (io), 3 I/O/MC1-2 (io), 4 I/O/MC1-4 (io), 8 I/O/MC1-6 (io), 9 I/O/MC1-8 (io), 11 I/O/MC1-9 (io), 12 I/O/MC1-10 (io), 13 I/O/MC1-11 (io), 14 I/O/MC1-12 (io), 18 I/O/MC1-13 (io), 19 I/O/MC1-14 (io), 20 I/O/MC1-15 (io), 22 I/O/MC1-16 (io), 24 I/O/MC1-17 (io)
part B pins: 1 I/O/MC2-1 (io), 25 I/O/MC2-17 (io), 26 I/O/MC2-16 (io), 27 I/O/MC2-15 (io), 28 I/O/MC2-14 (io), 29 I/O/MC2-13 (io), 33 I/O/MC2-12 (io), 34 I/O/MC2-11 (io), 35 I/O/MC2-10 (io), 36 I/O/MC2-9 (io), 37 I/O/MC2-8 (io), 38 I/O/MC2-7 (io), 43 I/O/MC2-4 (io), 44 I/O/MC2-2 (io)
part C pins: 5 I/O/GCK1/MC1-3 (io), 6 I/O/GCK2/MC1-5 (io), 7 I/O/GCK3/MC1-7 (io), 39 I/O/GSR/MC2-6 (io), 40 I/O/GTS2/MC2-5 (io), 42 I/O/GTS1/MC2-3 (io)
part D pins: 15 TDI (in), 16 TMS (in), 17 TCK (in), 30 TDO (out)
part E pins: 21 VCC INT (power), 32 VCC IO (power), 41 VCC INT (power)
part F pins: 10 GND (power), 23 GND (power), 31 GND (power)
part A text: BANK 1
part B text: BANK 2

## XC9536-7PCG44I
designator U?
XC9500 5V, 36 Macrocell CPLD, 34 User I/Os, 44-Pin PLCC, Industrial Grade, Pb-Free; Published: 8-Sep-2006; LatestRevisionDate: 18-Nov-2009; LatestRevisionNote: Updated to family datasheet version 5.5 Jun-2007.; DatasheetVersion: ver6.3, Apr-2006; PackageVersion: ver1.2, Jun-2004; PackageReference: PCG44; Publisher: Altium Limited; PackageDescription: 44-Pin Plastic Leaded Chip Carrier (PCG44) - Pb-Free; Code_JEDEC: MS-047; Code_IPC: PLCC-44; ComponentLink1Description: XC9536 Datasheet; ComponentLink1URL: http://www.xilinx.com/support/documentation/data_sheets/ds064.pdf; ComponentLink2Description: PCG44 Package Drawing; ComponentLink2URL: http://www.xilinx.com/support/documentation/package_specs/pc44.pdf; ComponentLink3Description: XC9500 Documents; ComponentLink3URL: http://www.xilinx.com/support/documentation/xc9500.htm; ComponentLink4Description: Xilinx.com Home; ComponentLink4URL: http://www.xilinx.com
footprint PCG44_N (Leaded Chip Carrier, 44-Leads, Body 16.6x16.6mm, Pitch 1.27mm, IPC Medium Density)
footprint PCG44_L (Leaded Chip Carrier, 44-Leads, Body 16.6x16.6mm, Pitch 1.27mm, IPC High Density)
footprint PCG44_M (Leaded Chip Carrier, 44-Leads, Body 16.6x16.6mm, Pitch 1.27mm, IPC Low Density)
signal-integrity model XC9536_PCG44 (XC9500)
part A pins: 2 I/O/MC1-1 (io), 3 I/O/MC1-2 (io), 4 I/O/MC1-4 (io), 8 I/O/MC1-6 (io), 9 I/O/MC1-8 (io), 11 I/O/MC1-9 (io), 12 I/O/MC1-10 (io), 13 I/O/MC1-11 (io), 14 I/O/MC1-12 (io), 18 I/O/MC1-13 (io), 19 I/O/MC1-14 (io), 20 I/O/MC1-15 (io), 22 I/O/MC1-16 (io), 24 I/O/MC1-17 (io)
part B pins: 1 I/O/MC2-1 (io), 25 I/O/MC2-17 (io), 26 I/O/MC2-16 (io), 27 I/O/MC2-15 (io), 28 I/O/MC2-14 (io), 29 I/O/MC2-13 (io), 33 I/O/MC2-12 (io), 34 I/O/MC2-11 (io), 35 I/O/MC2-10 (io), 36 I/O/MC2-9 (io), 37 I/O/MC2-8 (io), 38 I/O/MC2-7 (io), 43 I/O/MC2-4 (io), 44 I/O/MC2-2 (io)
part C pins: 5 I/O/GCK1/MC1-3 (io), 6 I/O/GCK2/MC1-5 (io), 7 I/O/GCK3/MC1-7 (io), 39 I/O/GSR/MC2-6 (io), 40 I/O/GTS2/MC2-5 (io), 42 I/O/GTS1/MC2-3 (io)
part D pins: 15 TDI (in), 16 TMS (in), 17 TCK (in), 30 TDO (out)
part E pins: 21 VCC INT (power), 32 VCC IO (power), 41 VCC INT (power)
part F pins: 10 GND (power), 23 GND (power), 31 GND (power)
part A text: BANK 1
part B text: BANK 2

## XC9536-7VQ44C
designator U?
XC9500 5V, 36 Macrocell CPLD, 34 User I/Os, 44-Pin VQFP, Commercial Grade; Published: 8-Jun-2000; LatestRevisionDate: 18-Nov-2009; LatestRevisionNote: Updated to family datasheet version 5.5 Jun-2007.; DatasheetVersion: ver6.3, Apr-2006; PackageVersion: ver1.2, Jun-2004; PackageReference: VQ44; Publisher: Altium Limited; PackageDescription: 44-Pin Very Thin Quad Flat Pack (VQ44); Supplier 1: Digi-Key; Supplier Part Number 1: 122-1170-ND; Supplier 2: Newark; Supplier Part Number 2: 60M3482; Code_JEDEC: MS-026-ACB; ComponentLink1Description: XC9536 Datasheet; ComponentLink1URL: http://www.xilinx.com/support/documentation/data_sheets/ds064.pdf; ComponentLink2Description: VQ44 Package Drawing; ComponentLink2URL: http://www.xilinx.com/support/documentation/package_specs/vq44.pdf; ComponentLink3Description: XC9500 Documents; ComponentLink3URL: http://www.xilinx.com/support/documentation/xc9500.htm; ComponentLink4Description: Xilinx.com Home; ComponentLink4URL: http://www.xilinx.com
footprint VQ44_N (Thin QFP, 44-Leads, Body 10x10mm, Pitch 0.8mm, IPC Medium Density)
footprint VQ44_L (Thin QFP, 44-Leads, Body 10x10mm, Pitch 0.8mm, IPC High Density)
footprint VQ44_M (Thin QFP, 44-Leads, Body 10x10mm, Pitch 0.8mm, IPC Low Density)
signal-integrity model XC9536_VQ44 (XC9500)
part A pins: 2 I/O/MC1-1 (io), 3 I/O/MC1-2 (io), 5 I/O/MC1-4 (io), 6 I/O/MC1-8 (io), 7 I/O/MC1-9 (io), 8 I/O/MC1-6 (io), 12 I/O/MC1-10 (io), 13 I/O/MC1-11 (io), 14 I/O/MC1-12 (io), 16 I/O/MC1-13 (io), 18 I/O/MC1-14 (io), 40 I/O/MC1-15 (io), 41 I/O/MC1-16 (io), 42 I/O/MC1-17 (io)
part B pins: 19 I/O/MC2-1 (io), 20 I/O/MC2-17 (io), 21 I/O/MC2-16 (io), 22 I/O/MC2-15 (io), 23 I/O/MC2-14 (io), 27 I/O/MC2-13 (io), 28 I/O/MC2-12 (io), 29 I/O/MC2-11 (io), 30 I/O/MC2-10 (io), 31 I/O/MC2-9 (io), 32 I/O/MC2-8 (io), 37 I/O/MC2-4 (io), 38 I/O/MC2-7 (io), 39 I/O/MC2-2 (io)
part C pins: 1 I/O/GCK3/MC1-7 (io), 33 I/O/GSR/MC2-6 (io), 34 I/O/GTS2/MC2-5 (io), 36 I/O/GTS1/MC2-3 (io), 43 I/O/GCK1/MC1-3 (io), 44 I/O/GCK2/MC1-5 (io)
part D pins: 9 TDI (in), 10 TMS (in), 11 TCK (in), 24 TDO (out)
part E pins: 15 VCC INT (power), 26 VCC IO (power), 35 VCC INT (power)
part F pins: 4 GND (power), 17 GND (power), 25 GND (power)
part A text: BANK 1
part B text: BANK 2

## XC9536-7VQ44I
designator U?
XC9500 5V, 36 Macrocell CPLD, 34 User I/Os, 44-Pin VQFP, Industrial Grade; Published: 17-Sep-2003; LatestRevisionDate: 18-Nov-2009; LatestRevisionNote: Updated to family datasheet version 5.5 Jun-2007.; DatasheetVersion: ver6.3, Apr-2006; PackageVersion: ver1.2, Jun-2004; PackageReference: VQ44; Publisher: Altium Limited; PackageDescription: 44-Pin Very Thin Quad Flat Pack (VQ44); Supplier 1: Digi-Key; Supplier Part Number 1: XC9536-7VQ44I-ND; Code_JEDEC: MS-026-ACB; ComponentLink1Description: XC9536 Datasheet; ComponentLink1URL: http://www.xilinx.com/support/documentation/data_sheets/ds064.pdf; ComponentLink2Description: VQ44 Package Drawing; ComponentLink2URL: http://www.xilinx.com/support/documentation/package_specs/vq44.pdf; ComponentLink3Description: XC9500 Documents; ComponentLink3URL: http://www.xilinx.com/support/documentation/xc9500.htm; ComponentLink4Description: Xilinx.com Home; ComponentLink4URL: http://www.xilinx.com
footprint VQ44_N (Thin QFP, 44-Leads, Body 10x10mm, Pitch 0.8mm, IPC Medium Density)
footprint VQ44_L (Thin QFP, 44-Leads, Body 10x10mm, Pitch 0.8mm, IPC High Density)
footprint VQ44_M (Thin QFP, 44-Leads, Body 10x10mm, Pitch 0.8mm, IPC Low Density)
signal-integrity model XC9536_VQ44 (XC9500)
part A pins: 2 I/O/MC1-1 (io), 3 I/O/MC1-2 (io), 5 I/O/MC1-4 (io), 6 I/O/MC1-8 (io), 7 I/O/MC1-9 (io), 8 I/O/MC1-6 (io), 12 I/O/MC1-10 (io), 13 I/O/MC1-11 (io), 14 I/O/MC1-12 (io), 16 I/O/MC1-13 (io), 18 I/O/MC1-14 (io), 40 I/O/MC1-15 (io), 41 I/O/MC1-16 (io), 42 I/O/MC1-17 (io)
part B pins: 19 I/O/MC2-1 (io), 20 I/O/MC2-17 (io), 21 I/O/MC2-16 (io), 22 I/O/MC2-15 (io), 23 I/O/MC2-14 (io), 27 I/O/MC2-13 (io), 28 I/O/MC2-12 (io), 29 I/O/MC2-11 (io), 30 I/O/MC2-10 (io), 31 I/O/MC2-9 (io), 32 I/O/MC2-8 (io), 37 I/O/MC2-4 (io), 38 I/O/MC2-7 (io), 39 I/O/MC2-2 (io)
part C pins: 1 I/O/GCK3/MC1-7 (io), 33 I/O/GSR/MC2-6 (io), 34 I/O/GTS2/MC2-5 (io), 36 I/O/GTS1/MC2-3 (io), 43 I/O/GCK1/MC1-3 (io), 44 I/O/GCK2/MC1-5 (io)
part D pins: 9 TDI (in), 10 TMS (in), 11 TCK (in), 24 TDO (out)
part E pins: 15 VCC INT (power), 26 VCC IO (power), 35 VCC INT (power)
part F pins: 4 GND (power), 17 GND (power), 25 GND (power)
part A text: BANK 1
part B text: BANK 2

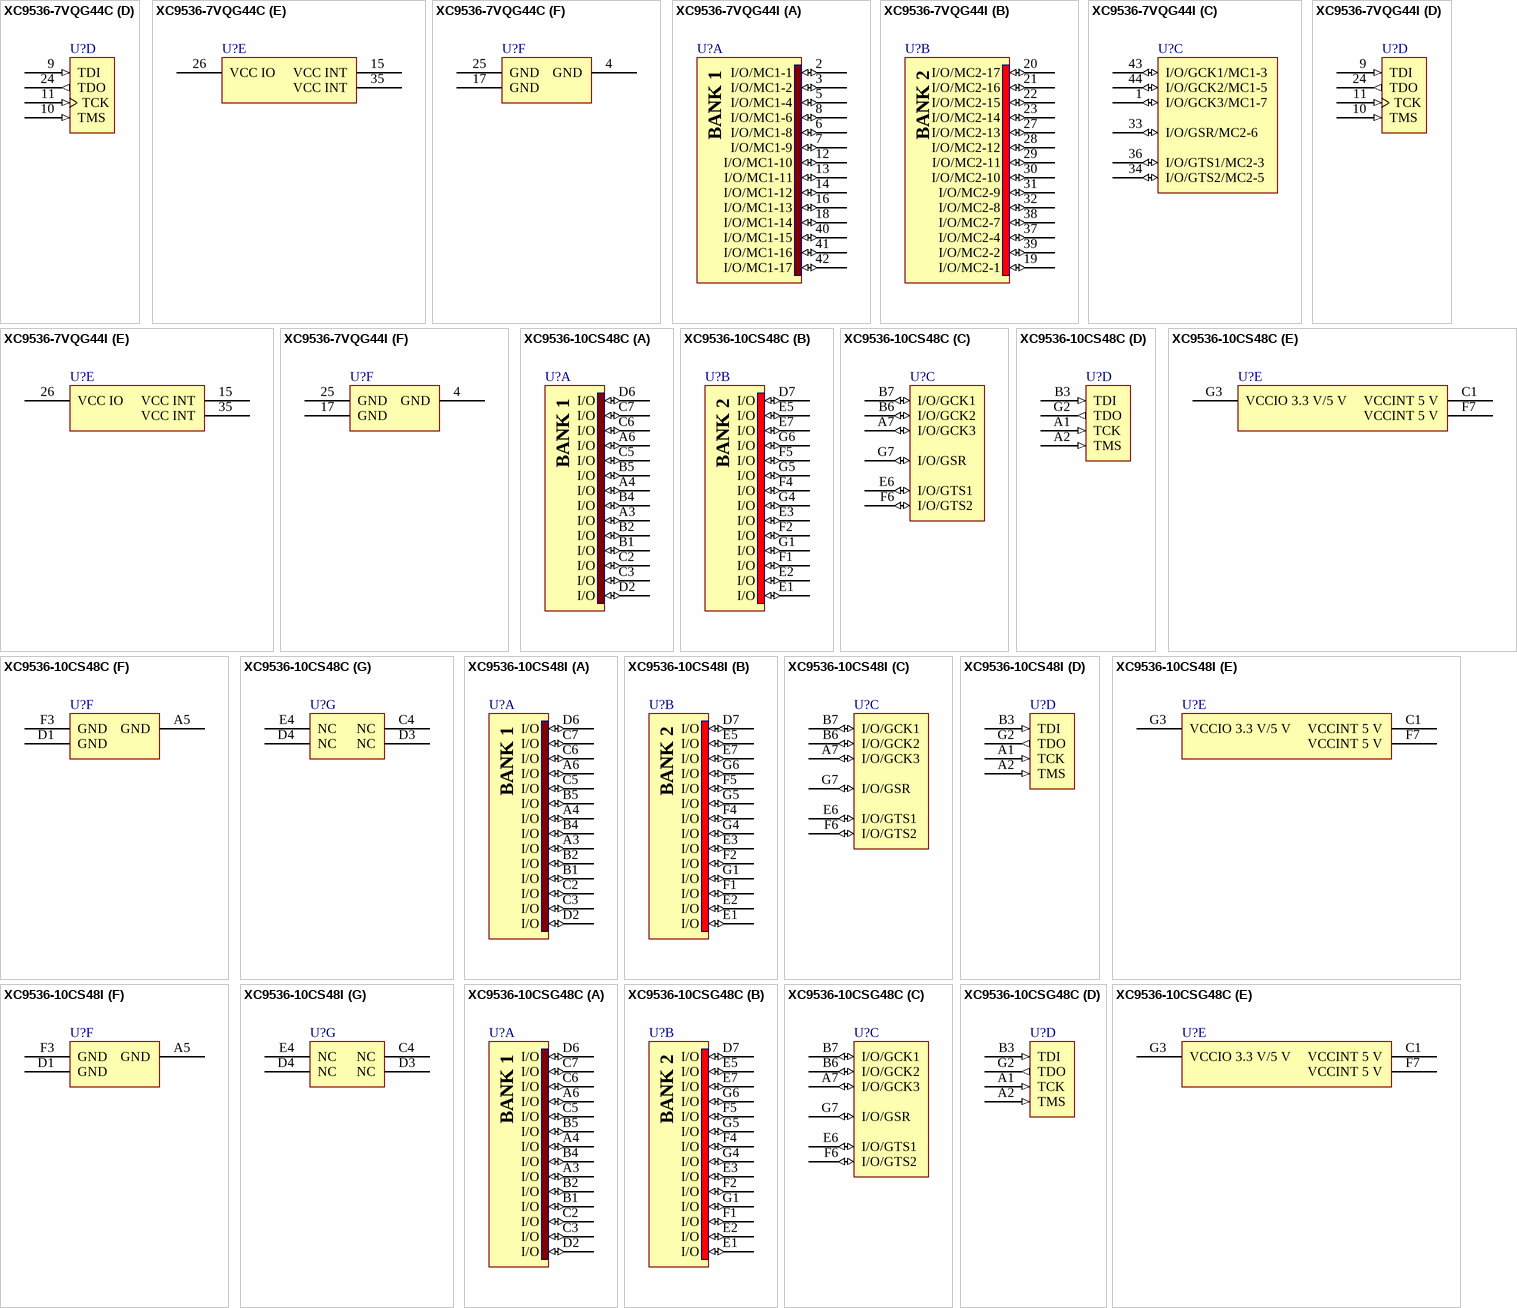
[diagram p4: symbols XC9536-7VQG44C to XC9536-10CSG48C]

## XC9536-7VQG44C
designator U?
XC9500 5V, 36 Macrocell CPLD, 34 User I/Os, 44-Pin VQFP, Commercial Grade, Pb-Free; Published: 8-Sep-2006; LatestRevisionDate: 18-Nov-2009; LatestRevisionNote: Updated to family datasheet version 5.5 Jun-2007.; DatasheetVersion: ver6.3, Apr-2006; PackageVersion: ver1.2, Jun-2004; PackageReference: VQG44; Publisher: Altium Limited; PackageDescription: 44-Pin Very Thin Quad Flat Pack (VQG44) - Pb-Free; Code_JEDEC: MS-026-ACB; ComponentLink1Description: XC9536 Datasheet; ComponentLink1URL: http://www.xilinx.com/support/documentation/data_sheets/ds064.pdf; ComponentLink2Description: VQG44 Package Drawing; ComponentLink2URL: http://www.xilinx.com/support/documentation/package_specs/vq44.pdf; ComponentLink3Description: XC9500 Documents; ComponentLink3URL: http://www.xilinx.com/support/documentation/xc9500.htm; ComponentLink4Description: Xilinx.com Home; ComponentLink4URL: http://www.xilinx.com
footprint VQG44_N (Thin QFP, 44-Leads, Body 10x10mm, Pitch 0.8mm, IPC Medium Density)
footprint VQG44_L (Thin QFP, 44-Leads, Body 10x10mm, Pitch 0.8mm, IPC High Density)
footprint VQG44_M (Thin QFP, 44-Leads, Body 10x10mm, Pitch 0.8mm, IPC Low Density)
signal-integrity model XC9536_VQG44 (XC9500)
part A pins: 2 I/O/MC1-1 (io), 3 I/O/MC1-2 (io), 5 I/O/MC1-4 (io), 6 I/O/MC1-8 (io), 7 I/O/MC1-9 (io), 8 I/O/MC1-6 (io), 12 I/O/MC1-10 (io), 13 I/O/MC1-11 (io), 14 I/O/MC1-12 (io), 16 I/O/MC1-13 (io), 18 I/O/MC1-14 (io), 40 I/O/MC1-15 (io), 41 I/O/MC1-16 (io), 42 I/O/MC1-17 (io)
part B pins: 19 I/O/MC2-1 (io), 20 I/O/MC2-17 (io), 21 I/O/MC2-16 (io), 22 I/O/MC2-15 (io), 23 I/O/MC2-14 (io), 27 I/O/MC2-13 (io), 28 I/O/MC2-12 (io), 29 I/O/MC2-11 (io), 30 I/O/MC2-10 (io), 31 I/O/MC2-9 (io), 32 I/O/MC2-8 (io), 37 I/O/MC2-4 (io), 38 I/O/MC2-7 (io), 39 I/O/MC2-2 (io)
part C pins: 1 I/O/GCK3/MC1-7 (io), 33 I/O/GSR/MC2-6 (io), 34 I/O/GTS2/MC2-5 (io), 36 I/O/GTS1/MC2-3 (io), 43 I/O/GCK1/MC1-3 (io), 44 I/O/GCK2/MC1-5 (io)
part D pins: 9 TDI (in), 10 TMS (in), 11 TCK (in), 24 TDO (out)
part E pins: 15 VCC INT (power), 26 VCC IO (power), 35 VCC INT (power)
part F pins: 4 GND (power), 17 GND (power), 25 GND (power)
part A text: BANK 1
part B text: BANK 2

## XC9536-7VQG44I
designator U?
XC9500 5V, 36 Macrocell CPLD, 34 User I/Os, 44-Pin VQFP, Industrial Grade, Pb-Free; Published: 8-Sep-2006; LatestRevisionDate: 18-Nov-2009; LatestRevisionNote: Updated to family datasheet version 5.5 Jun-2007.; DatasheetVersion: ver6.3, Apr-2006; PackageVersion: ver1.2, Jun-2004; PackageReference: VQG44; Publisher: Altium Limited; PackageDescription: 44-Pin Very Thin Quad Flat Pack (VQG44) - Pb-Free; Code_JEDEC: MS-026-ACB; ComponentLink1Description: XC9536 Datasheet; ComponentLink1URL: http://www.xilinx.com/support/documentation/data_sheets/ds064.pdf; ComponentLink2Description: VQG44 Package Drawing; ComponentLink2URL: http://www.xilinx.com/support/documentation/package_specs/vq44.pdf; ComponentLink3Description: XC9500 Documents; ComponentLink3URL: http://www.xilinx.com/support/documentation/xc9500.htm; ComponentLink4Description: Xilinx.com Home; ComponentLink4URL: http://www.xilinx.com
footprint VQG44_N (Thin QFP, 44-Leads, Body 10x10mm, Pitch 0.8mm, IPC Medium Density)
footprint VQG44_L (Thin QFP, 44-Leads, Body 10x10mm, Pitch 0.8mm, IPC High Density)
footprint VQG44_M (Thin QFP, 44-Leads, Body 10x10mm, Pitch 0.8mm, IPC Low Density)
signal-integrity model XC9536_VQG44 (XC9500)
part A pins: 2 I/O/MC1-1 (io), 3 I/O/MC1-2 (io), 5 I/O/MC1-4 (io), 6 I/O/MC1-8 (io), 7 I/O/MC1-9 (io), 8 I/O/MC1-6 (io), 12 I/O/MC1-10 (io), 13 I/O/MC1-11 (io), 14 I/O/MC1-12 (io), 16 I/O/MC1-13 (io), 18 I/O/MC1-14 (io), 40 I/O/MC1-15 (io), 41 I/O/MC1-16 (io), 42 I/O/MC1-17 (io)
part B pins: 19 I/O/MC2-1 (io), 20 I/O/MC2-17 (io), 21 I/O/MC2-16 (io), 22 I/O/MC2-15 (io), 23 I/O/MC2-14 (io), 27 I/O/MC2-13 (io), 28 I/O/MC2-12 (io), 29 I/O/MC2-11 (io), 30 I/O/MC2-10 (io), 31 I/O/MC2-9 (io), 32 I/O/MC2-8 (io), 37 I/O/MC2-4 (io), 38 I/O/MC2-7 (io), 39 I/O/MC2-2 (io)
part C pins: 1 I/O/GCK3/MC1-7 (io), 33 I/O/GSR/MC2-6 (io), 34 I/O/GTS2/MC2-5 (io), 36 I/O/GTS1/MC2-3 (io), 43 I/O/GCK1/MC1-3 (io), 44 I/O/GCK2/MC1-5 (io)
part D pins: 9 TDI (in), 10 TMS (in), 11 TCK (in), 24 TDO (out)
part E pins: 15 VCC INT (power), 26 VCC IO (power), 35 VCC INT (power)
part F pins: 4 GND (power), 17 GND (power), 25 GND (power)
part A text: BANK 1
part B text: BANK 2

## XC9536-10CS48C
designator U?
XC9500 5V, 36 Macrocell CPLD, 34 User I/Os, 48-Ball CSBGA, Commercial Grade; Published: 17-Sep-2003; LatestRevisionDate: 18-Nov-2009; LatestRevisionNote: Updated to family datasheet version 5.5 Jun-2007.; DatasheetVersion: ver6.3, Apr-2006; PackageVersion: ver1.2.1, Apr-2005; PackageReference: CS48; Publisher: Altium Limited; PackageDescription: 48-Ball Chip Scale Ball Grid Array (CS48); Supplier 1: Digi-Key; Supplier Part Number 1: XC9536-10CS48C-ND; ComponentLink1Description: XC9536 Datasheet; ComponentLink1URL: http://www.xilinx.com/support/documentation/data_sheets/ds064.pdf; ComponentLink2Description: CS48 Package Drawing; ComponentLink2URL: http://www.xilinx.com/support/documentation/package_specs/cs48.pdf; ComponentLink3Description: XC9500 Documents; ComponentLink3URL: http://www.xilinx.com/support/documentation/xc9500.htm; ComponentLink4Description: Xilinx.com Home; ComponentLink4URL: http://www.xilinx.com
footprint CS48 (BGA, 48-Leads, Body 7x7mm, Pitch 0.8mm)
signal-integrity model XC9536_CS48 (XC9500)
part A pins: A3 I/O (io), A4 I/O (io), A6 I/O (io), B1 I/O (io), B2 I/O (io), B4 I/O (io), B5 I/O (io), C2 I/O (io), C3 I/O (io), C5 I/O (io), C6 I/O (io), C7 I/O (io), D2 I/O (io), D6 I/O (io)
part B pins: D7 I/O (io), E1 I/O (io), E2 I/O (io), E3 I/O (io), E5 I/O (io), E7 I/O (io), F1 I/O (io), F2 I/O (io), F4 I/O (io), F5 I/O (io), G1 I/O (io), G4 I/O (io), G5 I/O (io), G6 I/O (io)
part C pins: A7 I/O/GCK3 (io), B6 I/O/GCK2 (io), B7 I/O/GCK1 (io), E6 I/O/GTS1 (io), F6 I/O/GTS2 (io), G7 I/O/GSR (io)
part D pins: A1 TCK (in), A2 TMS (in), B3 TDI (in), G2 TDO (out)
part E pins: C1 VCCINT 5 V (power), F7 VCCINT 5 V (power), G3 VCCIO 3.3 V/5 V (power)
part F pins: A5 GND (power), D1 GND (power), F3 GND (power)
part G pins: C4 NC, D3 NC, D4 NC, E4 NC
part A text: BANK 1
part B text: BANK 2

## XC9536-10CS48I
designator U?
XC9500 5V, 36 Macrocell CPLD, 34 User I/Os, 48-Ball CSBGA, Industrial Grade; Published: 8-Sep-2006; LatestRevisionDate: 18-Nov-2009; LatestRevisionNote: Updated to family datasheet version 5.5 Jun-2007.; DatasheetVersion: ver6.3, Apr-2006; PackageVersion: ver1.2.1, Apr-2005; PackageReference: CS48; Publisher: Altium Limited; PackageDescription: 48-Ball Chip Scale Ball Grid Array (CS48); ComponentLink1Description: XC9536 Datasheet; ComponentLink1URL: http://www.xilinx.com/support/documentation/data_sheets/ds064.pdf; ComponentLink2Description: CS48 Package Drawing; ComponentLink2URL: http://www.xilinx.com/support/documentation/package_specs/cs48.pdf; ComponentLink3Description: XC9500 Documents; ComponentLink3URL: http://www.xilinx.com/support/documentation/xc9500.htm; ComponentLink4Description: Xilinx.com Home; ComponentLink4URL: http://www.xilinx.com
footprint CS48 (BGA, 48-Leads, Body 7x7mm, Pitch 0.8mm)
signal-integrity model XC9536_CS48 (XC9500)
part A pins: A3 I/O (io), A4 I/O (io), A6 I/O (io), B1 I/O (io), B2 I/O (io), B4 I/O (io), B5 I/O (io), C2 I/O (io), C3 I/O (io), C5 I/O (io), C6 I/O (io), C7 I/O (io), D2 I/O (io), D6 I/O (io)
part B pins: D7 I/O (io), E1 I/O (io), E2 I/O (io), E3 I/O (io), E5 I/O (io), E7 I/O (io), F1 I/O (io), F2 I/O (io), F4 I/O (io), F5 I/O (io), G1 I/O (io), G4 I/O (io), G5 I/O (io), G6 I/O (io)
part C pins: A7 I/O/GCK3 (io), B6 I/O/GCK2 (io), B7 I/O/GCK1 (io), E6 I/O/GTS1 (io), F6 I/O/GTS2 (io), G7 I/O/GSR (io)
part D pins: A1 TCK (in), A2 TMS (in), B3 TDI (in), G2 TDO (out)
part E pins: C1 VCCINT 5 V (power), F7 VCCINT 5 V (power), G3 VCCIO 3.3 V/5 V (power)
part F pins: A5 GND (power), D1 GND (power), F3 GND (power)
part G pins: C4 NC, D3 NC, D4 NC, E4 NC
part A text: BANK 1
part B text: BANK 2

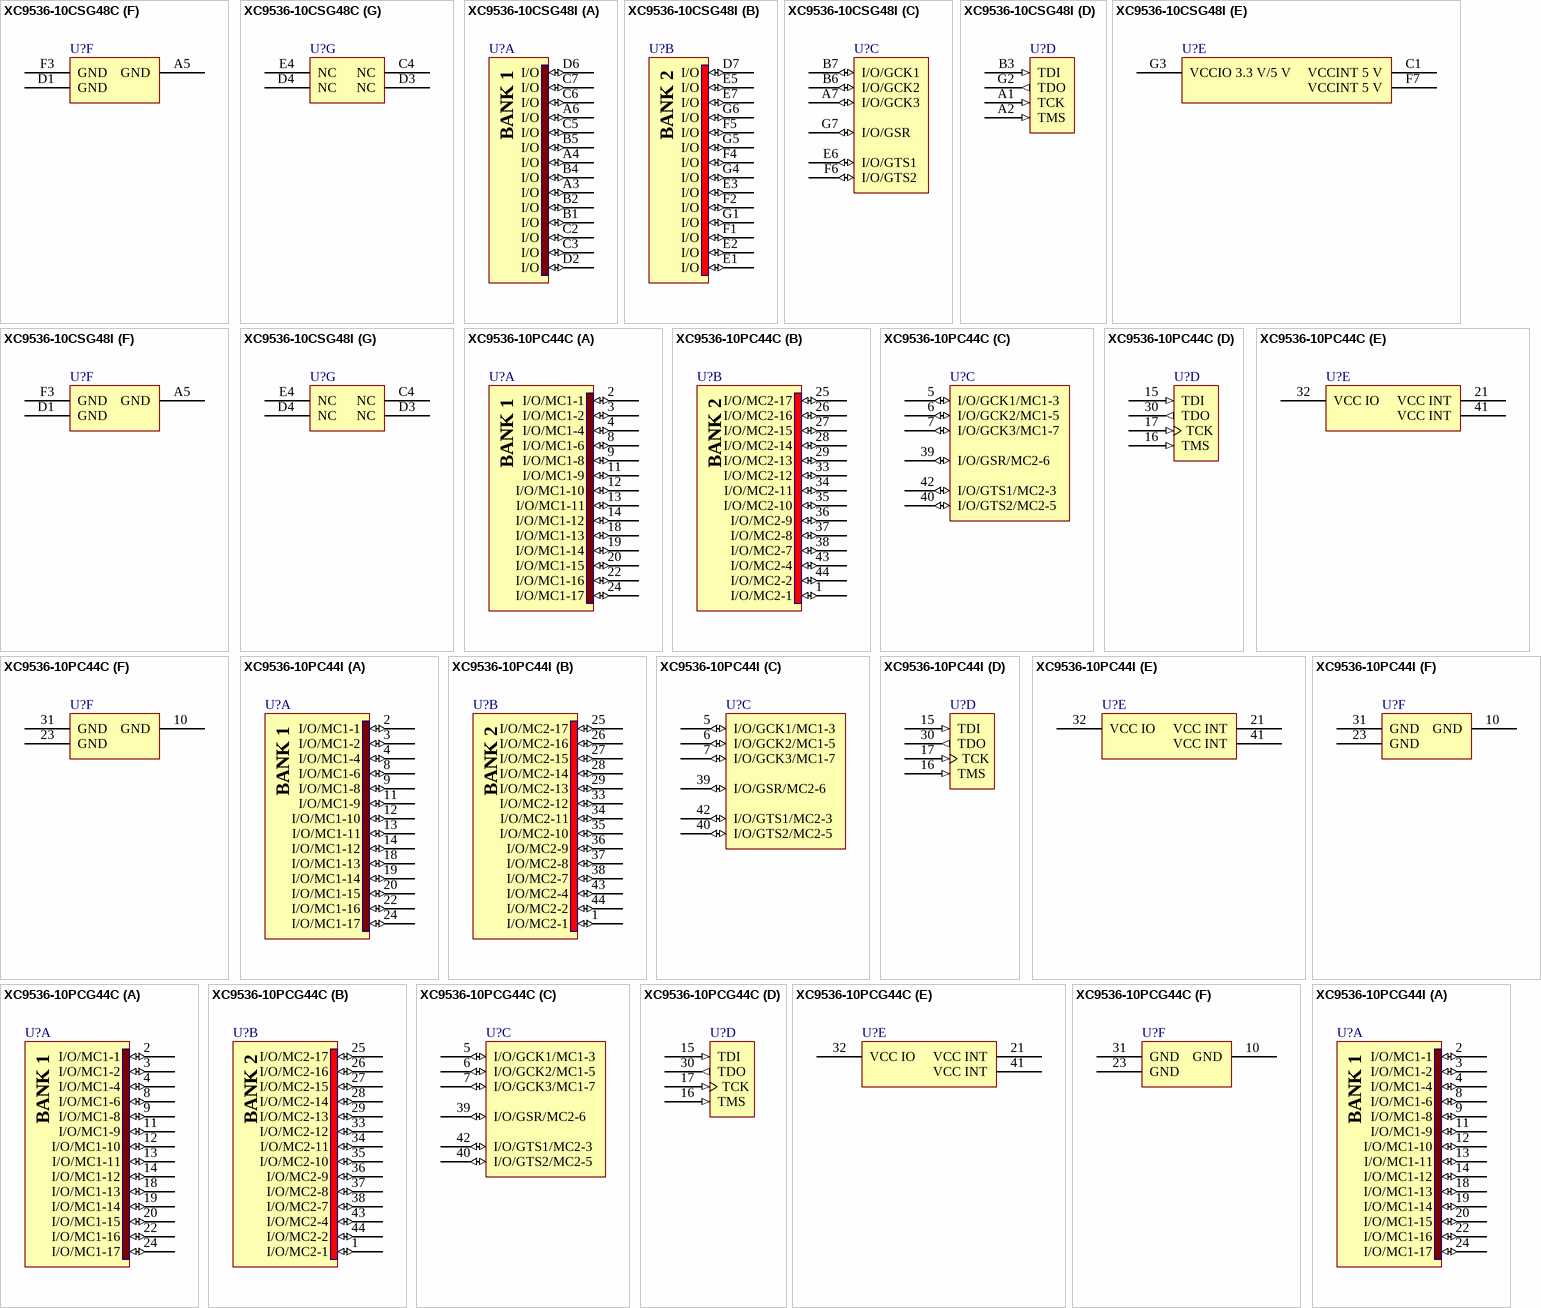
[diagram p5: symbols XC9536-10CSG48C to XC9536-10PCG44I]

## XC9536-10CSG48C
designator U?
XC9500 5V, 36 Macrocell CPLD, 34 User I/Os, 48-Ball CSBGA, Commercial Grade, Pb-Free; Published: 8-Sep-2006; LatestRevisionDate: 18-Nov-2009; LatestRevisionNote: Updated to family datasheet version 5.5 Jun-2007.; DatasheetVersion: ver6.3, Apr-2006; PackageVersion: ver1.2.1, Apr-2005; PackageReference: CSG48; Publisher: Altium Limited; PackageDescription: 48-Ball Chip Scale Ball Grid Array (CSG48) - Pb-Free; ComponentLink1Description: XC9536 Datasheet; ComponentLink1URL: http://www.xilinx.com/support/documentation/data_sheets/ds064.pdf; ComponentLink2Description: CSG48 Package Drawing; ComponentLink2URL: http://www.xilinx.com/support/documentation/package_specs/cs48.pdf; ComponentLink3Description: XC9500 Documents; ComponentLink3URL: http://www.xilinx.com/support/documentation/xc9500.htm; ComponentLink4Description: Xilinx.com Home; ComponentLink4URL: http://www.xilinx.com
footprint CSG48 (BGA, 48-Leads, Body 7x7mm, Pitch 0.8mm)
signal-integrity model XC9536_CSG48 (XC9500)
part A pins: A3 I/O (io), A4 I/O (io), A6 I/O (io), B1 I/O (io), B2 I/O (io), B4 I/O (io), B5 I/O (io), C2 I/O (io), C3 I/O (io), C5 I/O (io), C6 I/O (io), C7 I/O (io), D2 I/O (io), D6 I/O (io)
part B pins: D7 I/O (io), E1 I/O (io), E2 I/O (io), E3 I/O (io), E5 I/O (io), E7 I/O (io), F1 I/O (io), F2 I/O (io), F4 I/O (io), F5 I/O (io), G1 I/O (io), G4 I/O (io), G5 I/O (io), G6 I/O (io)
part C pins: A7 I/O/GCK3 (io), B6 I/O/GCK2 (io), B7 I/O/GCK1 (io), E6 I/O/GTS1 (io), F6 I/O/GTS2 (io), G7 I/O/GSR (io)
part D pins: A1 TCK (in), A2 TMS (in), B3 TDI (in), G2 TDO (out)
part E pins: C1 VCCINT 5 V (power), F7 VCCINT 5 V (power), G3 VCCIO 3.3 V/5 V (power)
part F pins: A5 GND (power), D1 GND (power), F3 GND (power)
part G pins: C4 NC, D3 NC, D4 NC, E4 NC
part A text: BANK 1
part B text: BANK 2